# Altium integrated library Xilinx Virtex.IntLib: 240 symbols (part 23 of 36)
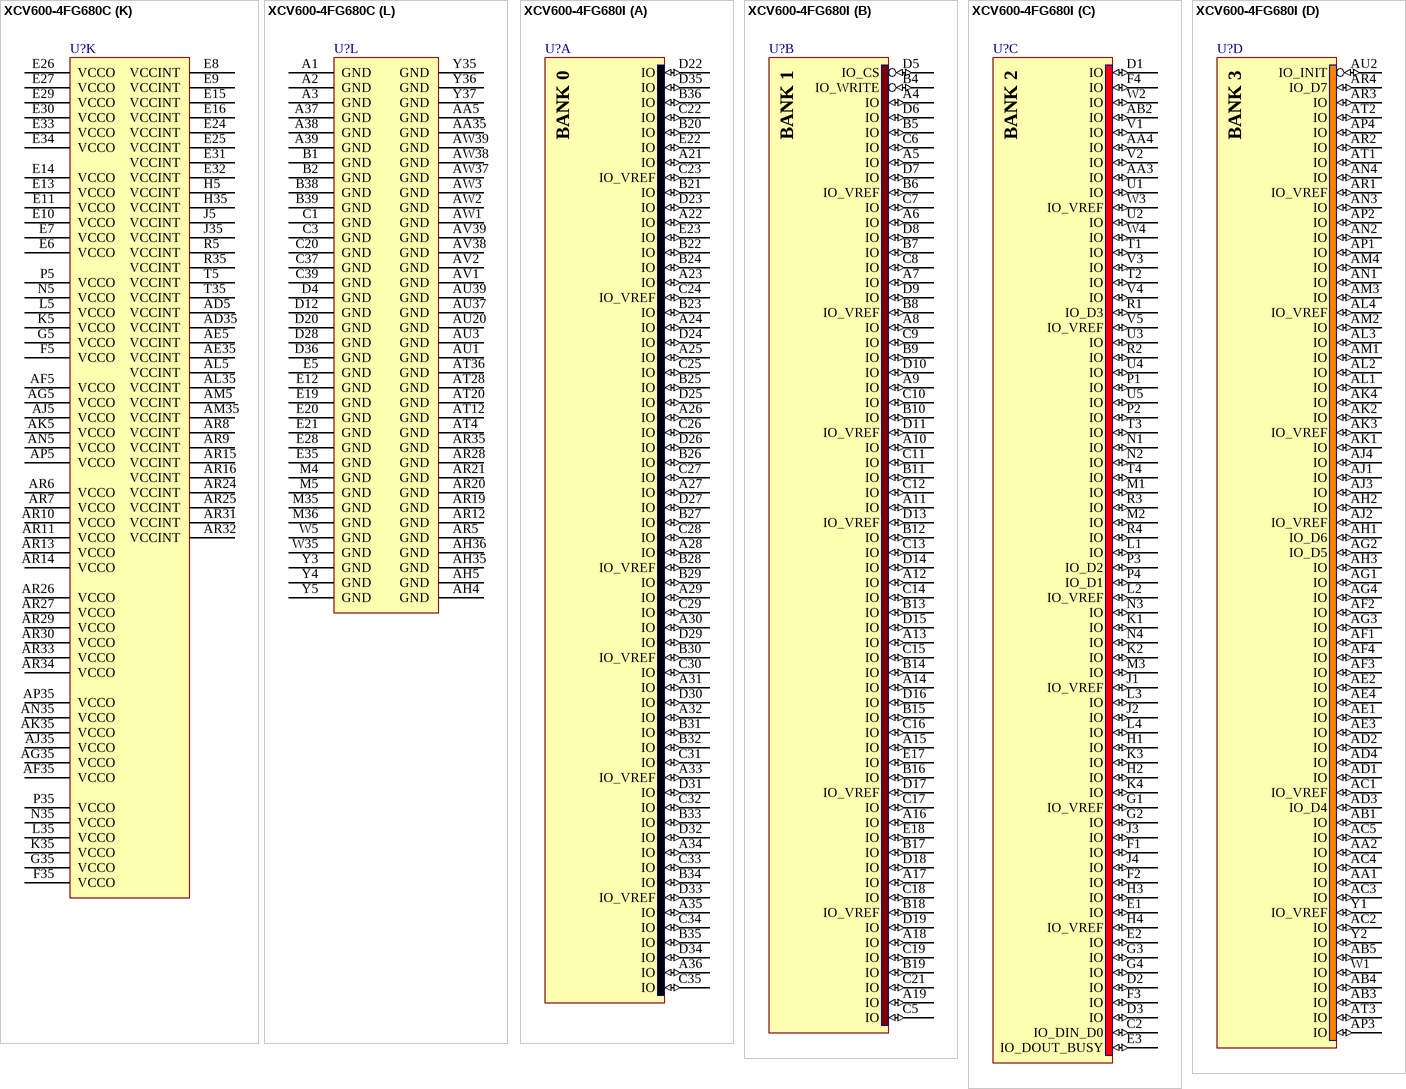
[diagram p243: symbols XCV600-4FG680C to XCV600-4FG680I]

## XCV600-4FG680C
designator U?
Virtex 2.5V FPGA, 512 User I/Os, 680-Ball FBGA, Speed Grade 4, Commercial Grade; Note: Solder pads are defined by the copper i.e. non-soldermask defined (NSMD); Published: 19-Sep-2001; LatestRevisionDate: 13-Apr-2006; LatestRevisionNote: IPC-7351 Footprint Added.; DatasheetVersion: Dec-2002; PackageVersion: ver1.2.1, Apr-2005; PackageReference: FG680; Publisher: Altium Limited; PackageDescription: 680-Ball Fine Pitch Ball Grid Array (FG680); Supplier 1: Digi-Key; Supplier Part Number 1: XCV600-4FG680C-ND; Code_JEDEC: MO-192-AAU-1 (Depopulated); ComponentLink1Description: Virtex Datasheet; ComponentLink1URL: http://www.xilinx.com/support/documentation/data_sheets/ds003.pdf; ComponentLink2Description: FG680 Package Drawing; ComponentLink2URL: http://www.xilinx.com/support/documentation/package_specs/fg680.pdf; ComponentLink3Description: Virtex Documents; ComponentLink3URL: http://www.xilinx.com/support/documentation/virtex.htm; ComponentLink4Description: Xilinx.com Home; ComponentLink4URL: http://www.xilinx.com
footprint FG680 (BGA, 680-Leads, Body 40x40mm, Pitch 1mm)
signal-integrity model XCV600_FG680 (Virtex)
part A pins: A21 IO (io), A22 IO (io), A23 IO (io), A24 IO (io), A25 IO (io), A26 IO (io), A27 IO (io), A28 IO (io), A29 IO (io), A30 IO (io), A31 IO (io), A32 IO (io), A33 IO_VREF (io), A34 IO (io), A35 IO (io), A36 IO (io), B20 IO (io), B21 IO (io), B22 IO (io), B23 IO (io), B24 IO (io), B25 IO (io), B26 IO (io), B27 IO (io), B28 IO_VREF (io), B29 IO (io), B30 IO_VREF (io), B31 IO (io), B32 IO (io), B33 IO (io), B34 IO (io), B35 IO (io), B36 IO (io), C22 IO (io), C23 IO_VREF (io), C24 IO_VREF (io), C25 IO (io), C26 IO (io), C27 IO (io), C28 IO (io), C29 IO (io), C30 IO (io), C31 IO (io), C32 IO (io), C33 IO (io), C34 IO (io), C35 IO (io), D22 IO (io), D23 IO (io), D24 IO (io), D25 IO (io), D26 IO (io), D27 IO (io), D29 IO (io), D30 IO (io), D31 IO (io), D32 IO (io), D33 IO_VREF (io), D34 IO (io), D35 IO (io), E22 IO (io), E23 IO (io)
part B pins: A4 IO (io), A5 IO (io), A6 IO (io), A7 IO (io), A8 IO (io), A9 IO (io), A10 IO (io), A11 IO (io), A12 IO (io), A13 IO (io), A14 IO (io), A15 IO (io), A16 IO (io), A17 IO (io), A18 IO (io), A19 IO (io), B4 IO_WRITE (io), B5 IO (io), B6 IO_VREF (io), B7 IO (io), B8 IO_VREF (io), B9 IO (io), B10 IO (io), B11 IO (io), B12 IO (io), B13 IO (io), B14 IO (io), B15 IO (io), B16 IO (io), B17 IO (io), B18 IO_VREF (io), B19 IO (io), C5 IO (io), C6 IO (io), C7 IO (io), C8 IO (io), C9 IO (io), C10 IO (io), C11 IO (io), C12 IO (io), C13 IO (io), C14 IO (io), C15 IO (io), C16 IO (io), C17 IO (io), C18 IO (io), C19 IO (io), C21 IO (io), D5 IO_CS (io), D6 IO (io), D7 IO (io), D8 IO (io), D9 IO (io), D10 IO (io), D11 IO_VREF (io), D13 IO_VREF (io), D14 IO (io), D15 IO (io), D16 IO (io), D17 IO_VREF (io), D18 IO (io), D19 IO (io), E17 IO (io), E18 IO (io)
part C pins: AA3 IO (io), AA4 IO (io), AB2 IO (io), C2 IO_DIN_D0 (io), D1 IO (io), D2 IO (io), D3 IO (io), E1 IO (io), E2 IO (io), E3 IO_DOUT_BUSY (io), F1 IO (io), F2 IO (io), F3 IO (io), F4 IO (io), G1 IO_VREF (io), G2 IO (io), G3 IO (io), G4 IO (io), H1 IO (io), H2 IO (io), H3 IO (io), H4 IO_VREF (io), J1 IO_VREF (io), J2 IO (io), J3 IO (io), J4 IO (io), K1 IO (io), K2 IO (io), K3 IO (io), K4 IO (io), L1 IO (io), L2 IO_VREF (io), L3 IO (io), L4 IO (io), M1 IO (io), M2 IO (io), M3 IO (io), N1 IO (io), N2 IO (io), N3 IO (io), N4 IO (io), P1 IO (io), P2 IO (io), P3 IO_D2 (io), P4 IO_D1 (io), R1 IO_D3 (io), R2 IO (io), R3 IO (io), R4 IO (io), T1 IO (io), T2 IO (io), T3 IO (io), T4 IO (io), U1 IO (io), U2 IO (io), U3 IO (io), U4 IO (io), U5 IO (io), V1 IO (io), V2 IO (io), V3 IO (io), V4 IO (io), V5 IO_VREF (io), W2 IO (io), W3 IO_VREF (io), W4 IO (io)
part D pins: AA1 IO (io), AA2 IO (io), AB1 IO (io), AB3 IO (io), AB4 IO (io), AB5 IO (io), AC1 IO_VREF (io), AC2 IO (io), AC3 IO (io), AC4 IO (io), AC5 IO (io), AD1 IO (io), AD2 IO (io), AD3 IO_D4 (io), AD4 IO (io), AE1 IO (io), AE2 IO (io), AE3 IO (io), AE4 IO (io), AF1 IO (io), AF2 IO (io), AF3 IO (io), AF4 IO (io), AG1 IO (io), AG2 IO_D5 (io), AG3 IO (io), AG4 IO (io), AH1 IO_D6 (io), AH2 IO (io), AH3 IO (io), AJ1 IO (io), AJ2 IO_VREF (io), AJ3 IO (io), AJ4 IO (io), AK1 IO (io), AK2 IO (io), AK3 IO_VREF (io), AK4 IO (io), AL1 IO (io), AL2 IO (io), AL3 IO (io), AL4 IO_VREF (io), AM1 IO (io), AM2 IO (io), AM3 IO (io), AM4 IO (io), AN1 IO (io), AN2 IO (io), AN3 IO (io), AN4 IO (io), AP1 IO (io), AP2 IO (io), AP3 IO (io), AP4 IO (io), AR1 IO_VREF (io), AR2 IO (io), AR3 IO (io), AR4 IO_D7 (io), AT1 IO (io), AT2 IO (io), AT3 IO (io), AU2 IO_INIT (io), W1 IO (io), Y1 IO_VREF (io), Y2 IO (io)
part E pins: AR17 IO (io), AR18 IO (io), AT6 IO (io), AT7 IO (io), AT8 IO (io), AT9 IO (io), AT10 IO (io), AT11 IO (io), AT13 IO (io), AT14 IO (io), AT15 IO (io), AT16 IO (io), AT17 IO (io), AT18 IO (io), AT19 IO_VREF (io), AT21 IO (io), AU4 IO (io), AU6 IO (io), AU7 IO_VREF (io), AU8 IO (io), AU9 IO (io), AU10 IO (io), AU11 IO (io), AU12 IO (io), AU13 IO (io), AU14 IO (io), AU15 IO (io), AU16 IO (io), AU17 IO_VREF (io), AU18 IO (io), AU19 IO (io), AU21 IO (io), AV3 IO (io), AV4 IO (io), AV5 IO (io), AV6 IO (io), AV7 IO (io), AV8 IO_VREF (io), AV9 IO (io), AV10 IO_VREF (io), AV11 IO (io), AV12 IO (io), AV13 IO (io), AV14 IO (io), AV15 IO (io), AV16 IO (io), AV17 IO (io), AV18 IO (io), AV19 IO (io), AW4 IO (io), AW5 IO (io), AW6 IO (io), AW7 IO (io), AW8 IO (io), AW9 IO (io), AW10 IO (io), AW11 IO_VREF (io), AW12 IO (io), AW13 IO (io), AW14 IO (io), AW15 IO (io), AW16 IO (io), AW17 IO (io), AW18 IO (io)
part F pins: AR22 IO (io), AR23 IO (io), AT22 IO (io), AT23 IO (io), AT24 IO (io), AT25 IO (io), AT26 IO (io), AT27 IO_VREF (io), AT29 IO (io), AT30 IO (io), AT31 IO (io), AT32 IO (io), AT33 IO (io), AT34 IO (io), AU23 IO (io), AU24 IO (io), AU25 IO (io), AU26 IO (io), AU27 IO (io), AU28 IO (io), AU29 IO_VREF (io), AU30 IO (io), AU31 IO_VREF (io), AU32 IO (io), AU33 IO (io), AU34 IO (io), AU36 IO (io), AV20 IO (io), AV21 IO (io), AV22 IO (io), AV23 IO (io), AV24 IO (io), AV25 IO (io), AV26 IO (io), AV27 IO (io), AV28 IO (io), AV29 IO (io), AV30 IO (io), AV31 IO (io), AV32 IO (io), AV33 IO (io), AV34 IO (io), AV35 IO_VREF (io), AV36 IO (io), AW20 IO (io), AW21 IO_VREF (io), AW22 IO (io), AW23 IO_VREF (io), AW24 IO (io), AW25 IO (io), AW26 IO (io), AW27 IO (io), AW28 IO (io), AW29 IO (io), AW30 IO (io), AW31 IO (io), AW32 IO (io), AW33 IO (io), AW34 IO (io), AW35 IO (io), AW36 IO (io)
part G pins: AA36 IO (io), AA38 IO (io), AA39 IO (io), AB35 IO_VREF (io), AB36 IO (io), AB37 IO (io), AB38 IO (io), AB39 IO (io), AC35 IO (io), AC36 IO (io), AC37 IO (io), AC38 IO (io), AC39 IO (io), AD36 IO (io), AD37 IO_VREF (io), AD38 IO (io), AD39 IO (io), AE36 IO (io), AE37 IO (io), AE38 IO (io), AE39 IO (io), AF36 IO (io), AF37 IO (io), AF38 IO (io), AF39 IO (io), AG36 IO (io), AG37 IO (io), AG38 IO (io), AG39 IO (io), AH37 IO (io), AH38 IO (io), AH39 IO_VREF (io), AJ36 IO (io), AJ37 IO (io), AJ38 IO (io), AJ39 IO (io), AK36 IO (io), AK37 IO (io), AK38 IO (io), AK39 IO_VREF (io), AL36 IO (io), AL37 IO (io), AL38 IO (io), AL39 IO (io), AM36 IO (io), AM37 IO (io), AM38 IO (io), AM39 IO_VREF (io), AN36 IO_VREF (io), AN37 IO (io), AN38 IO (io), AN39 IO (io), AP36 IO (io), AP37 IO (io), AP38 IO (io), AP39 IO (io), AR36 IO (io), AR37 IO (io), AR38 IO (io), AR39 IO (io), AT38 IO (io), AT39 IO (io), W39 IO (io), Y38 IO (io), Y39 IO (io)
part H pins: AA37 IO (io), B37 IO (io), C38 IO (io), D37 IO (io), D38 IO (io), D39 IO (io), E37 IO (io), E38 IO_VREF (io), E39 IO (io), F36 IO (io), F37 IO (io), F38 IO (io), F39 IO (io), G36 IO (io), G37 IO (io), G38 IO_VREF (io), G39 IO (io), H36 IO (io), H37 IO (io), H38 IO (io), H39 IO (io), J36 IO (io), J37 IO (io), J38 IO (io), J39 IO (io), K36 IO (io), K37 IO (io), K38 IO (io), K39 IO (io), L36 IO_VREF (io), L37 IO (io), L38 IO (io), L39 IO (io), M37 IO (io), M38 IO (io), M39 IO (io), N36 IO_VREF (io), N37 IO (io), N38 IO (io), N39 IO (io), P36 IO (io), P37 IO (io), P38 IO (io), P39 IO (io), R36 IO (io), R37 IO (io), R38 IO (io), R39 IO (io), T36 IO (io), T37 IO (io), T38 IO (io), T39 IO (io), U35 IO (io), U36 IO_VREF (io), U37 IO (io), U38 IO_VREF (io), U39 IO (io), V35 IO (io), V36 IO (io), V37 IO (io), V38 IO (io), V39 IO (io), W36 IO (io), W37 IO (io), W38 IO (io)
part I pins: A20 GCK3 (in), AU22 GCK1 (in), AW19 GCK0 (in), D21 GCK2 (in)
part J pins: AT5 PROGRAM (in), AT35 M2 (in), AT37 M0 (in), AU5 DONE (io), AU35 DXP, AU38 M1 (in), AV37 DXN, B3 TDI (in), C4 TDO (out), C36 TCK (in), E4 CCLK (io), E36 TMS (in)
part K pins: AD5 VCCINT (power), AD35 VCCINT (power), AE5 VCCINT (power), AE35 VCCINT (power), AF5 VCCO (power), AF35 VCCO (power), AG5 VCCO (power), AG35 VCCO (power), AJ5 VCCO (power), AJ35 VCCO (power), AK5 VCCO (power), AK35 VCCO (power), AL5 VCCINT (power), AL35 VCCINT (power), AM5 VCCINT (power), AM35 VCCINT (power), AN5 VCCO (power), AN35 VCCO (power), AP5 VCCO (power), AP35 VCCO (power), AR6 VCCO (power), AR7 VCCO (power), AR8 VCCINT (power), AR9 VCCINT (power), AR10 VCCO (power), AR11 VCCO (power), AR13 VCCO (power), AR14 VCCO (power), AR15 VCCINT (power), AR16 VCCINT (power), AR24 VCCINT (power), AR25 VCCINT (power), AR26 VCCO (power), AR27 VCCO (power), AR29 VCCO (power), AR30 VCCO (power), AR31 VCCINT (power), AR32 VCCINT (power), AR33 VCCO (power), AR34 VCCO (power), E6 VCCO (power), E7 VCCO (power), E8 VCCINT (power), E9 VCCINT (power), E10 VCCO (power), E11 VCCO (power), E13 VCCO (power), E14 VCCO (power), E15 VCCINT (power), E16 VCCINT (power), E24 VCCINT (power), E25 VCCINT (power), E26 VCCO (power), E27 VCCO (power), E29 VCCO (power), E30 VCCO (power), E31 VCCINT (power), E32 VCCINT (power), E33 VCCO (power), E34 VCCO (power), F5 VCCO (power), F35 VCCO (power), G5 VCCO (power), G35 VCCO (power), H5 VCCINT (power), H35 VCCINT (power), J5 VCCINT (power), J35 VCCINT (power), K5 VCCO (power), K35 VCCO (power), L5 VCCO (power), L35 VCCO (power), N5 VCCO (power), N35 VCCO (power), P5 VCCO (power), P35 VCCO (power), R5 VCCINT (power), R35 VCCINT (power), T5 VCCINT (power), T35 VCCINT (power)
part L pins: A1 GND (power), A2 GND (power), A3 GND (power), A37 GND (power), A38 GND (power), A39 GND (power), AA5 GND (power), AA35 GND (power), AH4 GND (power), AH5 GND (power), AH35 GND (power), AH36 GND (power), AR5 GND (power), AR12 GND (power), AR19 GND (power), AR20 GND (power), AR21 GND (power), AR28 GND (power), AR35 GND (power), AT4 GND (power), AT12 GND (power), AT20 GND (power), AT28 GND (power), AT36 GND (power), AU1 GND (power), AU3 GND (power), AU20 GND (power), AU37 GND (power), AU39 GND (power), AV1 GND (power), AV2 GND (power), AV38 GND (power), AV39 GND (power), AW1 GND (power), AW2 GND (power), AW3 GND (power), AW37 GND (power), AW38 GND (power), AW39 GND (power), B1 GND (power), B2 GND (power), B38 GND (power), B39 GND (power), C1 GND (power), C3 GND (power), C20 GND (power), C37 GND (power), C39 GND (power), D4 GND (power), D12 GND (power), D20 GND (power), D28 GND (power), D36 GND (power), E5 GND (power), E12 GND (power), E19 GND (power), E20 GND (power), E21 GND (power), E28 GND (power), E35 GND (power), M4 GND (power), M5 GND (power), M35 GND (power), M36 GND (power), W5 GND (power), W35 GND (power), Y3 GND (power), Y4 GND (power), Y5 GND (power), Y35 GND (power), Y36 GND (power), Y37 GND (power)
part A text: BANK 0
part B text: BANK 1
part C text: BANK 2
part D text: BANK 3
part E text: BANK 4
part F text: BANK 5
part G text: BANK 6
part H text: BANK 7

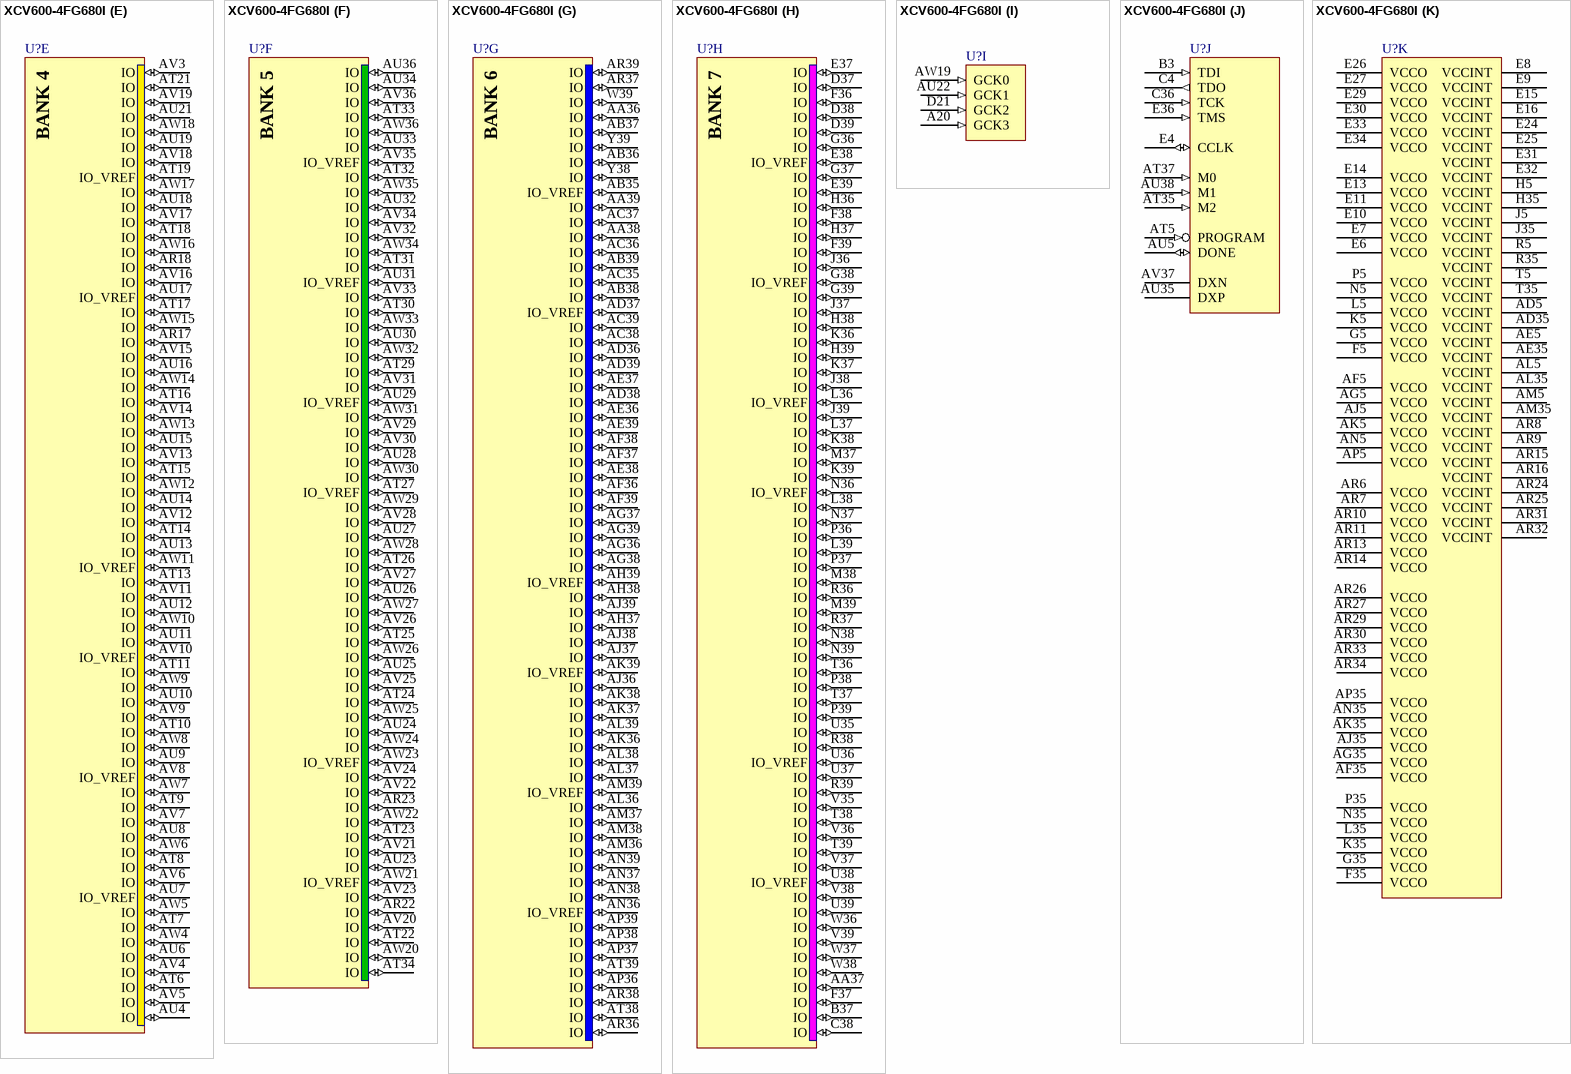
[diagram p133: symbol XCV600-4FG680I]

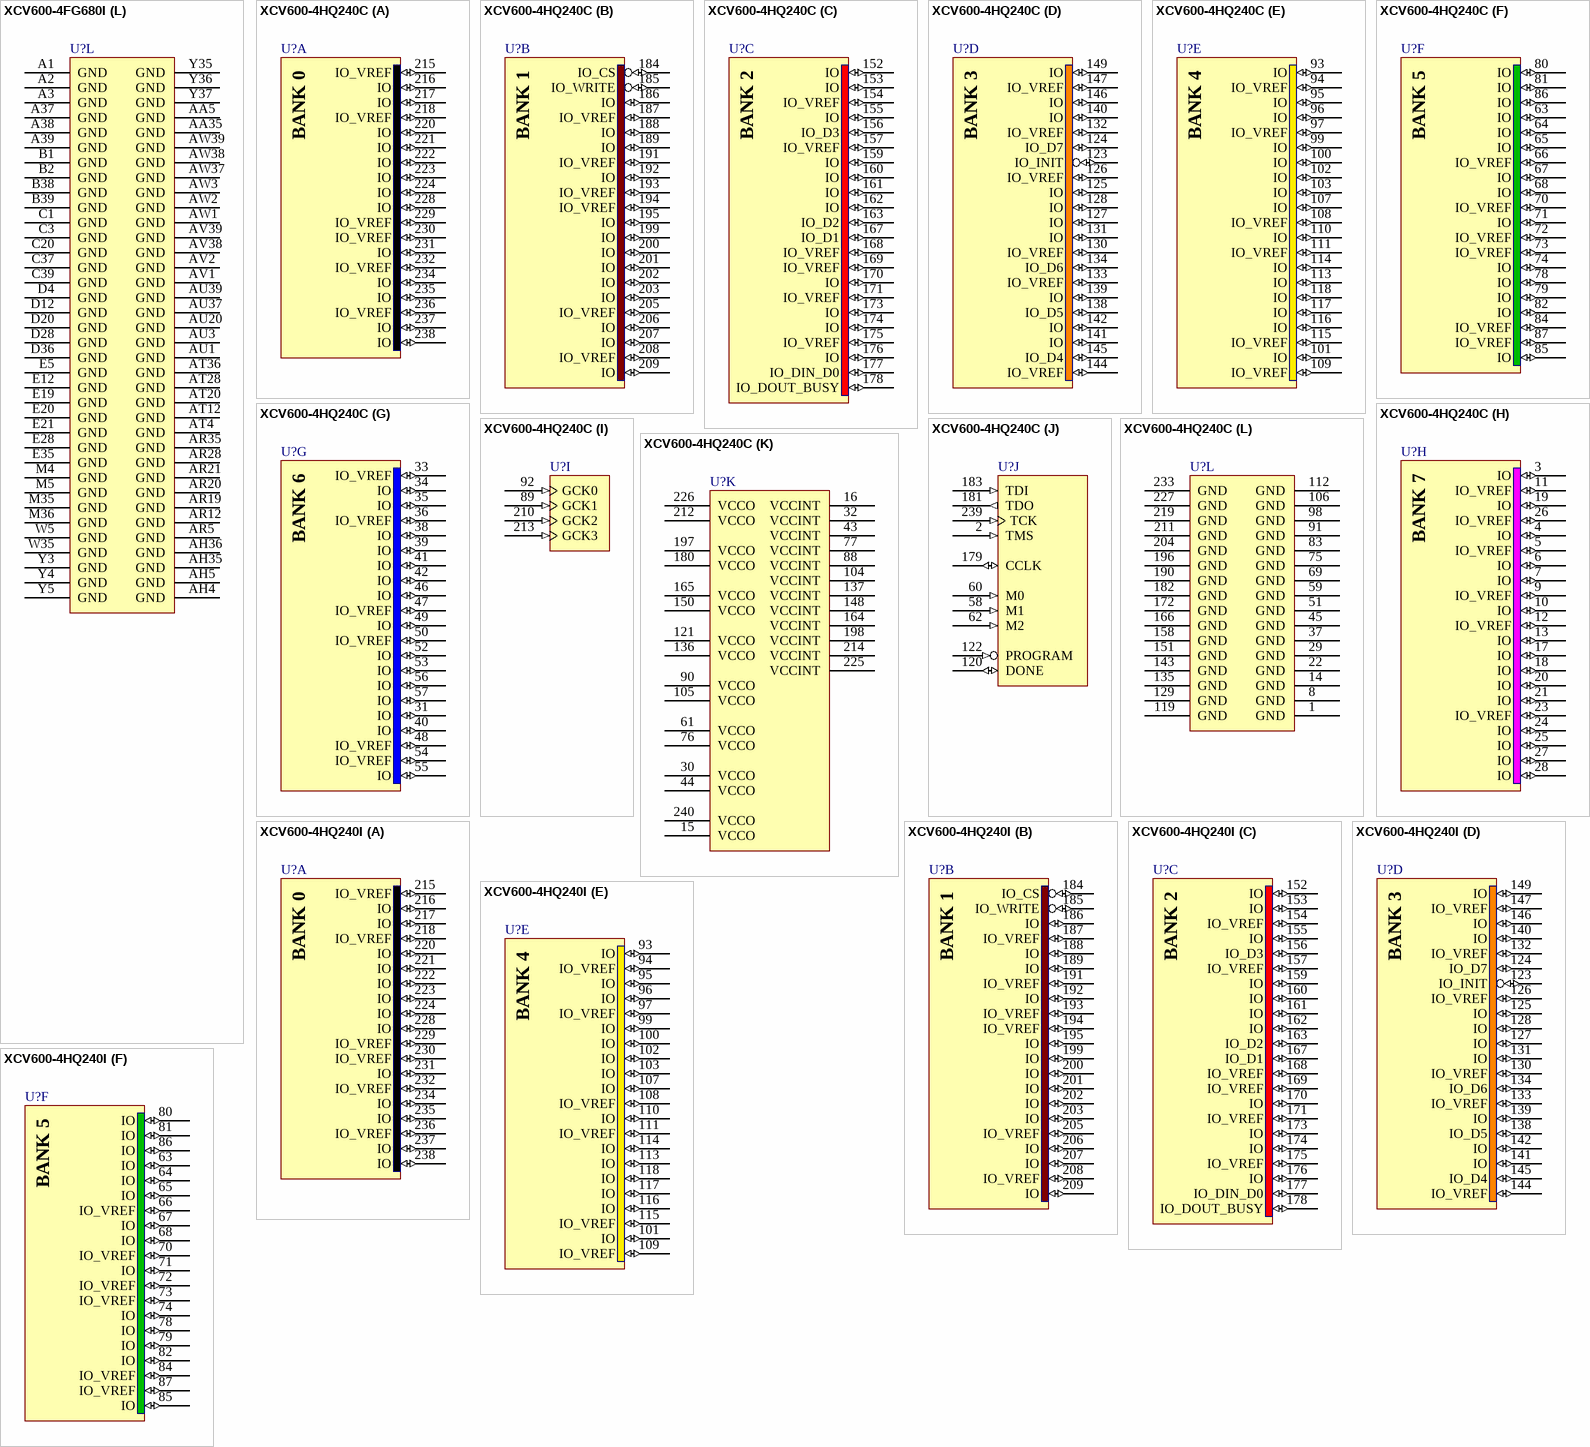
[diagram p134: symbols XCV600-4FG680I to XCV600-4HQ240I]

## XCV600-4FG680I
designator U?
Virtex 2.5V FPGA, 512 User I/Os, 680-Ball FBGA, Speed Grade 4, Industrial Grade; Note: Solder pads are defined by the copper i.e. non-soldermask defined (NSMD); Published: 19-Sep-2001; LatestRevisionDate: 13-Apr-2006; LatestRevisionNote: IPC-7351 Footprint Added.; DatasheetVersion: Dec-2002; PackageVersion: ver1.2.1, Apr-2005; PackageReference: FG680; Publisher: Altium Limited; PackageDescription: 680-Ball Fine Pitch Ball Grid Array (FG680); Supplier 1: Digi-Key; Supplier Part Number 1: XCV600-4FG680I-ND; Code_JEDEC: MO-192-AAU-1 (Depopulated); ComponentLink1Description: Virtex Datasheet; ComponentLink1URL: http://www.xilinx.com/support/documentation/data_sheets/ds003.pdf; ComponentLink2Description: FG680 Package Drawing; ComponentLink2URL: http://www.xilinx.com/support/documentation/package_specs/fg680.pdf; ComponentLink3Description: Virtex Documents; ComponentLink3URL: http://www.xilinx.com/support/documentation/virtex.htm; ComponentLink4Description: Xilinx.com Home; ComponentLink4URL: http://www.xilinx.com
footprint FG680 (BGA, 680-Leads, Body 40x40mm, Pitch 1mm)
signal-integrity model XCV600_FG680 (Virtex)
part A pins: A21 IO (io), A22 IO (io), A23 IO (io), A24 IO (io), A25 IO (io), A26 IO (io), A27 IO (io), A28 IO (io), A29 IO (io), A30 IO (io), A31 IO (io), A32 IO (io), A33 IO_VREF (io), A34 IO (io), A35 IO (io), A36 IO (io), B20 IO (io), B21 IO (io), B22 IO (io), B23 IO (io), B24 IO (io), B25 IO (io), B26 IO (io), B27 IO (io), B28 IO_VREF (io), B29 IO (io), B30 IO_VREF (io), B31 IO (io), B32 IO (io), B33 IO (io), B34 IO (io), B35 IO (io), B36 IO (io), C22 IO (io), C23 IO_VREF (io), C24 IO_VREF (io), C25 IO (io), C26 IO (io), C27 IO (io), C28 IO (io), C29 IO (io), C30 IO (io), C31 IO (io), C32 IO (io), C33 IO (io), C34 IO (io), C35 IO (io), D22 IO (io), D23 IO (io), D24 IO (io), D25 IO (io), D26 IO (io), D27 IO (io), D29 IO (io), D30 IO (io), D31 IO (io), D32 IO (io), D33 IO_VREF (io), D34 IO (io), D35 IO (io), E22 IO (io), E23 IO (io)
part B pins: A4 IO (io), A5 IO (io), A6 IO (io), A7 IO (io), A8 IO (io), A9 IO (io), A10 IO (io), A11 IO (io), A12 IO (io), A13 IO (io), A14 IO (io), A15 IO (io), A16 IO (io), A17 IO (io), A18 IO (io), A19 IO (io), B4 IO_WRITE (io), B5 IO (io), B6 IO_VREF (io), B7 IO (io), B8 IO_VREF (io), B9 IO (io), B10 IO (io), B11 IO (io), B12 IO (io), B13 IO (io), B14 IO (io), B15 IO (io), B16 IO (io), B17 IO (io), B18 IO_VREF (io), B19 IO (io), C5 IO (io), C6 IO (io), C7 IO (io), C8 IO (io), C9 IO (io), C10 IO (io), C11 IO (io), C12 IO (io), C13 IO (io), C14 IO (io), C15 IO (io), C16 IO (io), C17 IO (io), C18 IO (io), C19 IO (io), C21 IO (io), D5 IO_CS (io), D6 IO (io), D7 IO (io), D8 IO (io), D9 IO (io), D10 IO (io), D11 IO_VREF (io), D13 IO_VREF (io), D14 IO (io), D15 IO (io), D16 IO (io), D17 IO_VREF (io), D18 IO (io), D19 IO (io), E17 IO (io), E18 IO (io)
part C pins: AA3 IO (io), AA4 IO (io), AB2 IO (io), C2 IO_DIN_D0 (io), D1 IO (io), D2 IO (io), D3 IO (io), E1 IO (io), E2 IO (io), E3 IO_DOUT_BUSY (io), F1 IO (io), F2 IO (io), F3 IO (io), F4 IO (io), G1 IO_VREF (io), G2 IO (io), G3 IO (io), G4 IO (io), H1 IO (io), H2 IO (io), H3 IO (io), H4 IO_VREF (io), J1 IO_VREF (io), J2 IO (io), J3 IO (io), J4 IO (io), K1 IO (io), K2 IO (io), K3 IO (io), K4 IO (io), L1 IO (io), L2 IO_VREF (io), L3 IO (io), L4 IO (io), M1 IO (io), M2 IO (io), M3 IO (io), N1 IO (io), N2 IO (io), N3 IO (io), N4 IO (io), P1 IO (io), P2 IO (io), P3 IO_D2 (io), P4 IO_D1 (io), R1 IO_D3 (io), R2 IO (io), R3 IO (io), R4 IO (io), T1 IO (io), T2 IO (io), T3 IO (io), T4 IO (io), U1 IO (io), U2 IO (io), U3 IO (io), U4 IO (io), U5 IO (io), V1 IO (io), V2 IO (io), V3 IO (io), V4 IO (io), V5 IO_VREF (io), W2 IO (io), W3 IO_VREF (io), W4 IO (io)
part D pins: AA1 IO (io), AA2 IO (io), AB1 IO (io), AB3 IO (io), AB4 IO (io), AB5 IO (io), AC1 IO_VREF (io), AC2 IO (io), AC3 IO (io), AC4 IO (io), AC5 IO (io), AD1 IO (io), AD2 IO (io), AD3 IO_D4 (io), AD4 IO (io), AE1 IO (io), AE2 IO (io), AE3 IO (io), AE4 IO (io), AF1 IO (io), AF2 IO (io), AF3 IO (io), AF4 IO (io), AG1 IO (io), AG2 IO_D5 (io), AG3 IO (io), AG4 IO (io), AH1 IO_D6 (io), AH2 IO (io), AH3 IO (io), AJ1 IO (io), AJ2 IO_VREF (io), AJ3 IO (io), AJ4 IO (io), AK1 IO (io), AK2 IO (io), AK3 IO_VREF (io), AK4 IO (io), AL1 IO (io), AL2 IO (io), AL3 IO (io), AL4 IO_VREF (io), AM1 IO (io), AM2 IO (io), AM3 IO (io), AM4 IO (io), AN1 IO (io), AN2 IO (io), AN3 IO (io), AN4 IO (io), AP1 IO (io), AP2 IO (io), AP3 IO (io), AP4 IO (io), AR1 IO_VREF (io), AR2 IO (io), AR3 IO (io), AR4 IO_D7 (io), AT1 IO (io), AT2 IO (io), AT3 IO (io), AU2 IO_INIT (io), W1 IO (io), Y1 IO_VREF (io), Y2 IO (io)
part E pins: AR17 IO (io), AR18 IO (io), AT6 IO (io), AT7 IO (io), AT8 IO (io), AT9 IO (io), AT10 IO (io), AT11 IO (io), AT13 IO (io), AT14 IO (io), AT15 IO (io), AT16 IO (io), AT17 IO (io), AT18 IO (io), AT19 IO_VREF (io), AT21 IO (io), AU4 IO (io), AU6 IO (io), AU7 IO_VREF (io), AU8 IO (io), AU9 IO (io), AU10 IO (io), AU11 IO (io), AU12 IO (io), AU13 IO (io), AU14 IO (io), AU15 IO (io), AU16 IO (io), AU17 IO_VREF (io), AU18 IO (io), AU19 IO (io), AU21 IO (io), AV3 IO (io), AV4 IO (io), AV5 IO (io), AV6 IO (io), AV7 IO (io), AV8 IO_VREF (io), AV9 IO (io), AV10 IO_VREF (io), AV11 IO (io), AV12 IO (io), AV13 IO (io), AV14 IO (io), AV15 IO (io), AV16 IO (io), AV17 IO (io), AV18 IO (io), AV19 IO (io), AW4 IO (io), AW5 IO (io), AW6 IO (io), AW7 IO (io), AW8 IO (io), AW9 IO (io), AW10 IO (io), AW11 IO_VREF (io), AW12 IO (io), AW13 IO (io), AW14 IO (io), AW15 IO (io), AW16 IO (io), AW17 IO (io), AW18 IO (io)
part F pins: AR22 IO (io), AR23 IO (io), AT22 IO (io), AT23 IO (io), AT24 IO (io), AT25 IO (io), AT26 IO (io), AT27 IO_VREF (io), AT29 IO (io), AT30 IO (io), AT31 IO (io), AT32 IO (io), AT33 IO (io), AT34 IO (io), AU23 IO (io), AU24 IO (io), AU25 IO (io), AU26 IO (io), AU27 IO (io), AU28 IO (io), AU29 IO_VREF (io), AU30 IO (io), AU31 IO_VREF (io), AU32 IO (io), AU33 IO (io), AU34 IO (io), AU36 IO (io), AV20 IO (io), AV21 IO (io), AV22 IO (io), AV23 IO (io), AV24 IO (io), AV25 IO (io), AV26 IO (io), AV27 IO (io), AV28 IO (io), AV29 IO (io), AV30 IO (io), AV31 IO (io), AV32 IO (io), AV33 IO (io), AV34 IO (io), AV35 IO_VREF (io), AV36 IO (io), AW20 IO (io), AW21 IO_VREF (io), AW22 IO (io), AW23 IO_VREF (io), AW24 IO (io), AW25 IO (io), AW26 IO (io), AW27 IO (io), AW28 IO (io), AW29 IO (io), AW30 IO (io), AW31 IO (io), AW32 IO (io), AW33 IO (io), AW34 IO (io), AW35 IO (io), AW36 IO (io)
part G pins: AA36 IO (io), AA38 IO (io), AA39 IO (io), AB35 IO_VREF (io), AB36 IO (io), AB37 IO (io), AB38 IO (io), AB39 IO (io), AC35 IO (io), AC36 IO (io), AC37 IO (io), AC38 IO (io), AC39 IO (io), AD36 IO (io), AD37 IO_VREF (io), AD38 IO (io), AD39 IO (io), AE36 IO (io), AE37 IO (io), AE38 IO (io), AE39 IO (io), AF36 IO (io), AF37 IO (io), AF38 IO (io), AF39 IO (io), AG36 IO (io), AG37 IO (io), AG38 IO (io), AG39 IO (io), AH37 IO (io), AH38 IO (io), AH39 IO_VREF (io), AJ36 IO (io), AJ37 IO (io), AJ38 IO (io), AJ39 IO (io), AK36 IO (io), AK37 IO (io), AK38 IO (io), AK39 IO_VREF (io), AL36 IO (io), AL37 IO (io), AL38 IO (io), AL39 IO (io), AM36 IO (io), AM37 IO (io), AM38 IO (io), AM39 IO_VREF (io), AN36 IO_VREF (io), AN37 IO (io), AN38 IO (io), AN39 IO (io), AP36 IO (io), AP37 IO (io), AP38 IO (io), AP39 IO (io), AR36 IO (io), AR37 IO (io), AR38 IO (io), AR39 IO (io), AT38 IO (io), AT39 IO (io), W39 IO (io), Y38 IO (io), Y39 IO (io)
part H pins: AA37 IO (io), B37 IO (io), C38 IO (io), D37 IO (io), D38 IO (io), D39 IO (io), E37 IO (io), E38 IO_VREF (io), E39 IO (io), F36 IO (io), F37 IO (io), F38 IO (io), F39 IO (io), G36 IO (io), G37 IO (io), G38 IO_VREF (io), G39 IO (io), H36 IO (io), H37 IO (io), H38 IO (io), H39 IO (io), J36 IO (io), J37 IO (io), J38 IO (io), J39 IO (io), K36 IO (io), K37 IO (io), K38 IO (io), K39 IO (io), L36 IO_VREF (io), L37 IO (io), L38 IO (io), L39 IO (io), M37 IO (io), M38 IO (io), M39 IO (io), N36 IO_VREF (io), N37 IO (io), N38 IO (io), N39 IO (io), P36 IO (io), P37 IO (io), P38 IO (io), P39 IO (io), R36 IO (io), R37 IO (io), R38 IO (io), R39 IO (io), T36 IO (io), T37 IO (io), T38 IO (io), T39 IO (io), U35 IO (io), U36 IO_VREF (io), U37 IO (io), U38 IO_VREF (io), U39 IO (io), V35 IO (io), V36 IO (io), V37 IO (io), V38 IO (io), V39 IO (io), W36 IO (io), W37 IO (io), W38 IO (io)
part I pins: A20 GCK3 (in), AU22 GCK1 (in), AW19 GCK0 (in), D21 GCK2 (in)
part J pins: AT5 PROGRAM (in), AT35 M2 (in), AT37 M0 (in), AU5 DONE (io), AU35 DXP, AU38 M1 (in), AV37 DXN, B3 TDI (in), C4 TDO (out), C36 TCK (in), E4 CCLK (io), E36 TMS (in)
part K pins: AD5 VCCINT (power), AD35 VCCINT (power), AE5 VCCINT (power), AE35 VCCINT (power), AF5 VCCO (power), AF35 VCCO (power), AG5 VCCO (power), AG35 VCCO (power), AJ5 VCCO (power), AJ35 VCCO (power), AK5 VCCO (power), AK35 VCCO (power), AL5 VCCINT (power), AL35 VCCINT (power), AM5 VCCINT (power), AM35 VCCINT (power), AN5 VCCO (power), AN35 VCCO (power), AP5 VCCO (power), AP35 VCCO (power), AR6 VCCO (power), AR7 VCCO (power), AR8 VCCINT (power), AR9 VCCINT (power), AR10 VCCO (power), AR11 VCCO (power), AR13 VCCO (power), AR14 VCCO (power), AR15 VCCINT (power), AR16 VCCINT (power), AR24 VCCINT (power), AR25 VCCINT (power), AR26 VCCO (power), AR27 VCCO (power), AR29 VCCO (power), AR30 VCCO (power), AR31 VCCINT (power), AR32 VCCINT (power), AR33 VCCO (power), AR34 VCCO (power), E6 VCCO (power), E7 VCCO (power), E8 VCCINT (power), E9 VCCINT (power), E10 VCCO (power), E11 VCCO (power), E13 VCCO (power), E14 VCCO (power), E15 VCCINT (power), E16 VCCINT (power), E24 VCCINT (power), E25 VCCINT (power), E26 VCCO (power), E27 VCCO (power), E29 VCCO (power), E30 VCCO (power), E31 VCCINT (power), E32 VCCINT (power), E33 VCCO (power), E34 VCCO (power), F5 VCCO (power), F35 VCCO (power), G5 VCCO (power), G35 VCCO (power), H5 VCCINT (power), H35 VCCINT (power), J5 VCCINT (power), J35 VCCINT (power), K5 VCCO (power), K35 VCCO (power), L5 VCCO (power), L35 VCCO (power), N5 VCCO (power), N35 VCCO (power), P5 VCCO (power), P35 VCCO (power), R5 VCCINT (power), R35 VCCINT (power), T5 VCCINT (power), T35 VCCINT (power)
part L pins: A1 GND (power), A2 GND (power), A3 GND (power), A37 GND (power), A38 GND (power), A39 GND (power), AA5 GND (power), AA35 GND (power), AH4 GND (power), AH5 GND (power), AH35 GND (power), AH36 GND (power), AR5 GND (power), AR12 GND (power), AR19 GND (power), AR20 GND (power), AR21 GND (power), AR28 GND (power), AR35 GND (power), AT4 GND (power), AT12 GND (power), AT20 GND (power), AT28 GND (power), AT36 GND (power), AU1 GND (power), AU3 GND (power), AU20 GND (power), AU37 GND (power), AU39 GND (power), AV1 GND (power), AV2 GND (power), AV38 GND (power), AV39 GND (power), AW1 GND (power), AW2 GND (power), AW3 GND (power), AW37 GND (power), AW38 GND (power), AW39 GND (power), B1 GND (power), B2 GND (power), B38 GND (power), B39 GND (power), C1 GND (power), C3 GND (power), C20 GND (power), C37 GND (power), C39 GND (power), D4 GND (power), D12 GND (power), D20 GND (power), D28 GND (power), D36 GND (power), E5 GND (power), E12 GND (power), E19 GND (power), E20 GND (power), E21 GND (power), E28 GND (power), E35 GND (power), M4 GND (power), M5 GND (power), M35 GND (power), M36 GND (power), W5 GND (power), W35 GND (power), Y3 GND (power), Y4 GND (power), Y5 GND (power), Y35 GND (power), Y36 GND (power), Y37 GND (power)
part A text: BANK 0
part B text: BANK 1
part C text: BANK 2
part D text: BANK 3
part E text: BANK 4
part F text: BANK 5
part G text: BANK 6
part H text: BANK 7

## XCV600-4HQ240C
designator U?
Virtex 2.5V FPGA, 166 User I/Os, 240-Pin HQFP, Speed Grade 4, Commercial Grade; Published: 19-Sep-2001; LatestRevisionDate: 13-Apr-2006; LatestRevisionNote: IPC-7351 Footprint Added.; DatasheetVersion: Dec-2002; PackageVersion: ver1.2, Jun-2004; PackageReference: HQ240; Publisher: Altium Limited; PackageDescription: 240-Pin Heat Sink Quad Flat Pack (HQ240); Supplier 1: Digi-Key; Supplier Part Number 1: XCV600-4HQ240C-ND; Code_JEDEC: MO-143-GA; ComponentLink1Description: Virtex Datasheet; ComponentLink1URL: http://www.xilinx.com/support/documentation/data_sheets/ds003.pdf; ComponentLink2Description: Discontinuation Notice; ComponentLink2URL: http://www.xilinx.com/support/documentation/customer_notices/xcn09001.pdf; ComponentLink3Description: HQ240 Package Drawing; ComponentLink3URL: http://www.xilinx.com/support/documentation/package_specs/hq240.pdf; ComponentLink4Description: Virtex Documents; ComponentLink4URL: http://www.xilinx.com/support/documentation/virtex.htm; ComponentLink5Description: Xilinx.com Home; ComponentLink5URL: http://www.xilinx.com
footprint HQ240_N (Shrink QFP, 240-Leads, Body 32x32mm, Pitch 0.5mm, IPC Medium Density)
footprint HQ240_L (Shrink QFP, 240-Leads, Body 32x32mm, Pitch 0.5mm, IPC High Density)
footprint HQ240_M (Shrink QFP, 240-Leads, Body 32x32mm, Pitch 0.5mm, IPC Low Density)
signal-integrity model XCV600_HQ240 (Virtex)
part A pins: 215 IO_VREF (io), 216 IO (io), 217 IO (io), 218 IO_VREF (io), 220 IO (io), 221 IO (io), 222 IO (io), 223 IO (io), 224 IO (io), 228 IO (io), 229 IO_VREF (io), 230 IO_VREF (io), 231 IO (io), 232 IO_VREF (io), 234 IO (io), 235 IO (io), 236 IO_VREF (io), 237 IO (io), 238 IO (io)
part B pins: 184 IO_CS (io), 185 IO_WRITE (io), 186 IO (io), 187 IO_VREF (io), 188 IO (io), 189 IO (io), 191 IO_VREF (io), 192 IO (io), 193 IO_VREF (io), 194 IO_VREF (io), 195 IO (io), 199 IO (io), 200 IO (io), 201 IO (io), 202 IO (io), 203 IO (io), 205 IO_VREF (io), 206 IO (io), 207 IO (io), 208 IO_VREF (io), 209 IO (io)
part C pins: 152 IO (io), 153 IO (io), 154 IO_VREF (io), 155 IO (io), 156 IO_D3 (io), 157 IO_VREF (io), 159 IO (io), 160 IO (io), 161 IO (io), 162 IO (io), 163 IO_D2 (io), 167 IO_D1 (io), 168 IO_VREF (io), 169 IO_VREF (io), 170 IO (io), 171 IO_VREF (io), 173 IO (io), 174 IO (io), 175 IO_VREF (io), 176 IO (io), 177 IO_DIN_D0 (io), 178 IO_DOUT_BUSY (io)
part D pins: 123 IO_INIT (io), 124 IO_D7 (io), 125 IO (io), 126 IO_VREF (io), 127 IO (io), 128 IO (io), 130 IO_VREF (io), 131 IO (io), 132 IO_VREF (io), 133 IO_VREF (io), 134 IO_D6 (io), 138 IO_D5 (io), 139 IO (io), 140 IO (io), 141 IO (io), 142 IO (io), 144 IO_VREF (io), 145 IO_D4 (io), 146 IO (io), 147 IO_VREF (io), 149 IO (io)
part E pins: 93 IO (io), 94 IO_VREF (io), 95 IO (io), 96 IO (io), 97 IO_VREF (io), 99 IO (io), 100 IO (io), 101 IO (io), 102 IO (io), 103 IO (io), 107 IO (io), 108 IO_VREF (io), 109 IO_VREF (io), 110 IO (io), 111 IO_VREF (io), 113 IO (io), 114 IO (io), 115 IO_VREF (io), 116 IO (io), 117 IO (io), 118 IO (io)
part F pins: 63 IO (io), 64 IO (io), 65 IO (io), 66 IO_VREF (io), 67 IO (io), 68 IO (io), 70 IO_VREF (io), 71 IO (io), 72 IO_VREF (io), 73 IO_VREF (io), 74 IO (io), 78 IO (io), 79 IO (io), 80 IO (io), 81 IO (io), 82 IO (io), 84 IO_VREF (io), 85 IO (io), 86 IO (io), 87 IO_VREF (io)
part G pins: 31 IO (io), 33 IO_VREF (io), 34 IO (io), 35 IO (io), 36 IO_VREF (io), 38 IO (io), 39 IO (io), 40 IO (io), 41 IO (io), 42 IO (io), 46 IO (io), 47 IO_VREF (io), 48 IO_VREF (io), 49 IO (io), 50 IO_VREF (io), 52 IO (io), 53 IO (io), 54 IO_VREF (io), 55 IO (io), 56 IO (io), 57 IO (io)
part H pins: 3 IO (io), 4 IO (io), 5 IO_VREF (io), 6 IO (io), 7 IO (io), 9 IO_VREF (io), 10 IO (io), 11 IO_VREF (io), 12 IO_VREF (io), 13 IO (io), 17 IO (io), 18 IO (io), 19 IO (io), 20 IO (io), 21 IO (io), 23 IO_VREF (io), 24 IO (io), 25 IO (io), 26 IO_VREF (io), 27 IO (io), 28 IO (io)
part I pins: 89 GCK1 (in), 92 GCK0 (in), 210 GCK2 (in), 213 GCK3 (in)
part J pins: 2 TMS (in), 58 M1 (in), 60 M0 (in), 62 M2 (in), 120 DONE (io), 122 PROGRAM (in), 179 CCLK (io), 181 TDO (out), 183 TDI (in), 239 TCK (in)
part K pins: 15 VCCO (power), 16 VCCINT (power), 30 VCCO (power), 32 VCCINT (power), 43 VCCINT (power), 44 VCCO (power), 61 VCCO (power), 76 VCCO (power), 77 VCCINT (power), 88 VCCINT (power), 90 VCCO (power), 104 VCCINT (power), 105 VCCO (power), 121 VCCO (power), 136 VCCO (power), 137 VCCINT (power), 148 VCCINT (power), 150 VCCO (power), 164 VCCINT (power), 165 VCCO (power), 180 VCCO (power), 197 VCCO (power), 198 VCCINT (power), 212 VCCO (power), 214 VCCINT (power), 225 VCCINT (power), 226 VCCO (power), 240 VCCO (power)
part L pins: 1 GND (power), 8 GND (power), 14 GND (power), 22 GND (power), 29 GND (power), 37 GND (power), 45 GND (power), 51 GND (power), 59 GND (power), 69 GND (power), 75 GND (power), 83 GND (power), 91 GND (power), 98 GND (power), 106 GND (power), 112 GND (power), 119 GND (power), 129 GND (power), 135 GND (power), 143 GND (power), 151 GND (power), 158 GND (power), 166 GND (power), 172 GND (power), 182 GND (power), 190 GND (power), 196 GND (power), 204 GND (power), 211 GND (power), 219 GND (power), 227 GND (power), 233 GND (power)
part A text: BANK 0
part B text: BANK 1
part C text: BANK 2
part D text: BANK 3
part E text: BANK 4
part F text: BANK 5
part G text: BANK 6
part H text: BANK 7

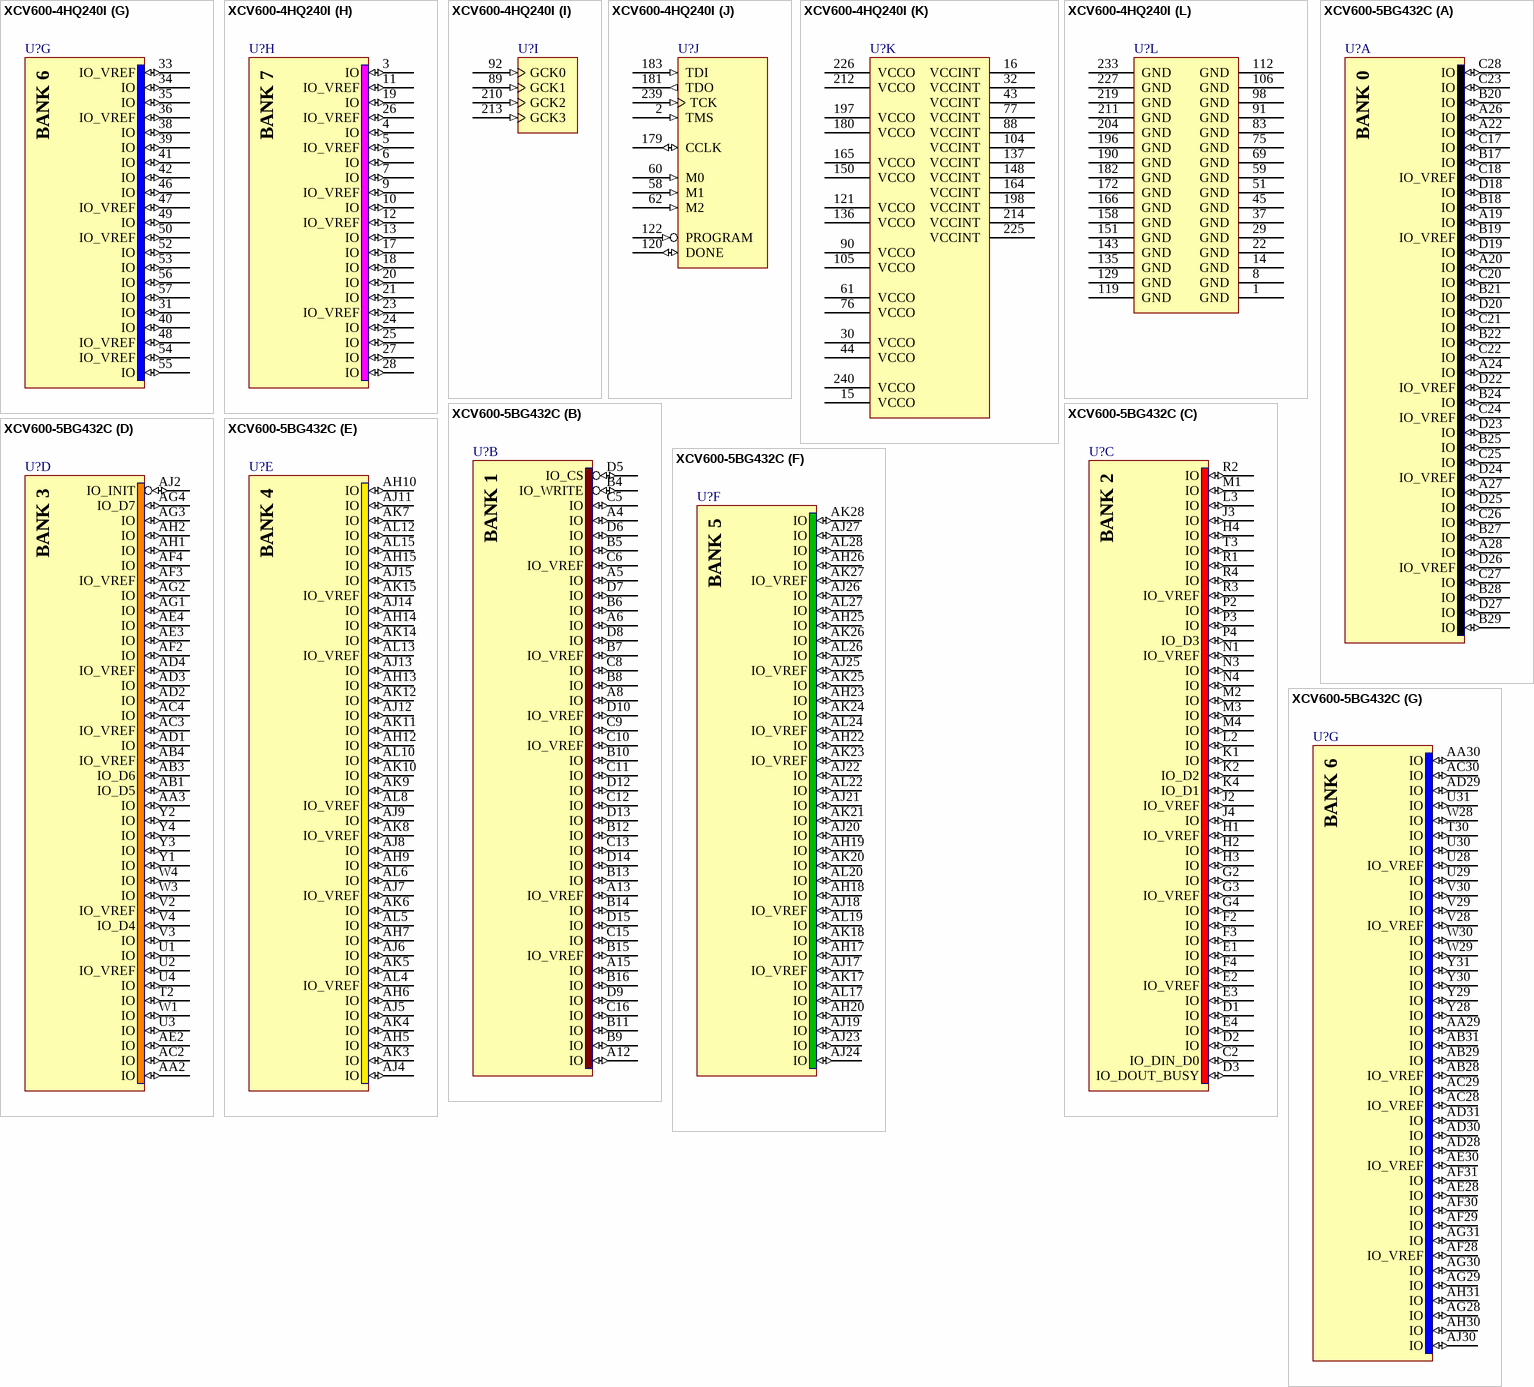
[diagram p135: symbols XCV600-4HQ240I to XCV600-5BG432C]

## XCV600-4HQ240I
designator U?
Virtex 2.5V FPGA, 166 User I/Os, 240-Pin HQFP, Speed Grade 4, Industrial Grade; Published: 19-Sep-2001; LatestRevisionDate: 13-Apr-2006; LatestRevisionNote: IPC-7351 Footprint Added.; DatasheetVersion: Dec-2002; PackageVersion: ver1.2, Jun-2004; PackageReference: HQ240; Publisher: Altium Limited; PackageDescription: 240-Pin Heat Sink Quad Flat Pack (HQ240); Supplier 1: Digi-Key; Supplier Part Number 1: XCV600-4HQ240I-ND; Code_JEDEC: MO-143-GA; ComponentLink1Description: Virtex Datasheet; ComponentLink1URL: http://www.xilinx.com/support/documentation/data_sheets/ds003.pdf; ComponentLink2Description: Discontinuation Notice; ComponentLink2URL: http://www.xilinx.com/support/documentation/customer_notices/xcn09001.pdf; ComponentLink3Description: HQ240 Package Drawing; ComponentLink3URL: http://www.xilinx.com/support/documentation/package_specs/hq240.pdf; ComponentLink4Description: Virtex Documents; ComponentLink4URL: http://www.xilinx.com/support/documentation/virtex.htm; ComponentLink5Description: Xilinx.com Home; ComponentLink5URL: http://www.xilinx.com
footprint HQ240_N (Shrink QFP, 240-Leads, Body 32x32mm, Pitch 0.5mm, IPC Medium Density)
footprint HQ240_L (Shrink QFP, 240-Leads, Body 32x32mm, Pitch 0.5mm, IPC High Density)
footprint HQ240_M (Shrink QFP, 240-Leads, Body 32x32mm, Pitch 0.5mm, IPC Low Density)
signal-integrity model XCV600_HQ240 (Virtex)
part A pins: 215 IO_VREF (io), 216 IO (io), 217 IO (io), 218 IO_VREF (io), 220 IO (io), 221 IO (io), 222 IO (io), 223 IO (io), 224 IO (io), 228 IO (io), 229 IO_VREF (io), 230 IO_VREF (io), 231 IO (io), 232 IO_VREF (io), 234 IO (io), 235 IO (io), 236 IO_VREF (io), 237 IO (io), 238 IO (io)
part B pins: 184 IO_CS (io), 185 IO_WRITE (io), 186 IO (io), 187 IO_VREF (io), 188 IO (io), 189 IO (io), 191 IO_VREF (io), 192 IO (io), 193 IO_VREF (io), 194 IO_VREF (io), 195 IO (io), 199 IO (io), 200 IO (io), 201 IO (io), 202 IO (io), 203 IO (io), 205 IO_VREF (io), 206 IO (io), 207 IO (io), 208 IO_VREF (io), 209 IO (io)
part C pins: 152 IO (io), 153 IO (io), 154 IO_VREF (io), 155 IO (io), 156 IO_D3 (io), 157 IO_VREF (io), 159 IO (io), 160 IO (io), 161 IO (io), 162 IO (io), 163 IO_D2 (io), 167 IO_D1 (io), 168 IO_VREF (io), 169 IO_VREF (io), 170 IO (io), 171 IO_VREF (io), 173 IO (io), 174 IO (io), 175 IO_VREF (io), 176 IO (io), 177 IO_DIN_D0 (io), 178 IO_DOUT_BUSY (io)
part D pins: 123 IO_INIT (io), 124 IO_D7 (io), 125 IO (io), 126 IO_VREF (io), 127 IO (io), 128 IO (io), 130 IO_VREF (io), 131 IO (io), 132 IO_VREF (io), 133 IO_VREF (io), 134 IO_D6 (io), 138 IO_D5 (io), 139 IO (io), 140 IO (io), 141 IO (io), 142 IO (io), 144 IO_VREF (io), 145 IO_D4 (io), 146 IO (io), 147 IO_VREF (io), 149 IO (io)
part E pins: 93 IO (io), 94 IO_VREF (io), 95 IO (io), 96 IO (io), 97 IO_VREF (io), 99 IO (io), 100 IO (io), 101 IO (io), 102 IO (io), 103 IO (io), 107 IO (io), 108 IO_VREF (io), 109 IO_VREF (io), 110 IO (io), 111 IO_VREF (io), 113 IO (io), 114 IO (io), 115 IO_VREF (io), 116 IO (io), 117 IO (io), 118 IO (io)
part F pins: 63 IO (io), 64 IO (io), 65 IO (io), 66 IO_VREF (io), 67 IO (io), 68 IO (io), 70 IO_VREF (io), 71 IO (io), 72 IO_VREF (io), 73 IO_VREF (io), 74 IO (io), 78 IO (io), 79 IO (io), 80 IO (io), 81 IO (io), 82 IO (io), 84 IO_VREF (io), 85 IO (io), 86 IO (io), 87 IO_VREF (io)
part G pins: 31 IO (io), 33 IO_VREF (io), 34 IO (io), 35 IO (io), 36 IO_VREF (io), 38 IO (io), 39 IO (io), 40 IO (io), 41 IO (io), 42 IO (io), 46 IO (io), 47 IO_VREF (io), 48 IO_VREF (io), 49 IO (io), 50 IO_VREF (io), 52 IO (io), 53 IO (io), 54 IO_VREF (io), 55 IO (io), 56 IO (io), 57 IO (io)
part H pins: 3 IO (io), 4 IO (io), 5 IO_VREF (io), 6 IO (io), 7 IO (io), 9 IO_VREF (io), 10 IO (io), 11 IO_VREF (io), 12 IO_VREF (io), 13 IO (io), 17 IO (io), 18 IO (io), 19 IO (io), 20 IO (io), 21 IO (io), 23 IO_VREF (io), 24 IO (io), 25 IO (io), 26 IO_VREF (io), 27 IO (io), 28 IO (io)
part I pins: 89 GCK1 (in), 92 GCK0 (in), 210 GCK2 (in), 213 GCK3 (in)
part J pins: 2 TMS (in), 58 M1 (in), 60 M0 (in), 62 M2 (in), 120 DONE (io), 122 PROGRAM (in), 179 CCLK (io), 181 TDO (out), 183 TDI (in), 239 TCK (in)
part K pins: 15 VCCO (power), 16 VCCINT (power), 30 VCCO (power), 32 VCCINT (power), 43 VCCINT (power), 44 VCCO (power), 61 VCCO (power), 76 VCCO (power), 77 VCCINT (power), 88 VCCINT (power), 90 VCCO (power), 104 VCCINT (power), 105 VCCO (power), 121 VCCO (power), 136 VCCO (power), 137 VCCINT (power), 148 VCCINT (power), 150 VCCO (power), 164 VCCINT (power), 165 VCCO (power), 180 VCCO (power), 197 VCCO (power), 198 VCCINT (power), 212 VCCO (power), 214 VCCINT (power), 225 VCCINT (power), 226 VCCO (power), 240 VCCO (power)
part L pins: 1 GND (power), 8 GND (power), 14 GND (power), 22 GND (power), 29 GND (power), 37 GND (power), 45 GND (power), 51 GND (power), 59 GND (power), 69 GND (power), 75 GND (power), 83 GND (power), 91 GND (power), 98 GND (power), 106 GND (power), 112 GND (power), 119 GND (power), 129 GND (power), 135 GND (power), 143 GND (power), 151 GND (power), 158 GND (power), 166 GND (power), 172 GND (power), 182 GND (power), 190 GND (power), 196 GND (power), 204 GND (power), 211 GND (power), 219 GND (power), 227 GND (power), 233 GND (power)
part A text: BANK 0
part B text: BANK 1
part C text: BANK 2
part D text: BANK 3
part E text: BANK 4
part F text: BANK 5
part G text: BANK 6
part H text: BANK 7

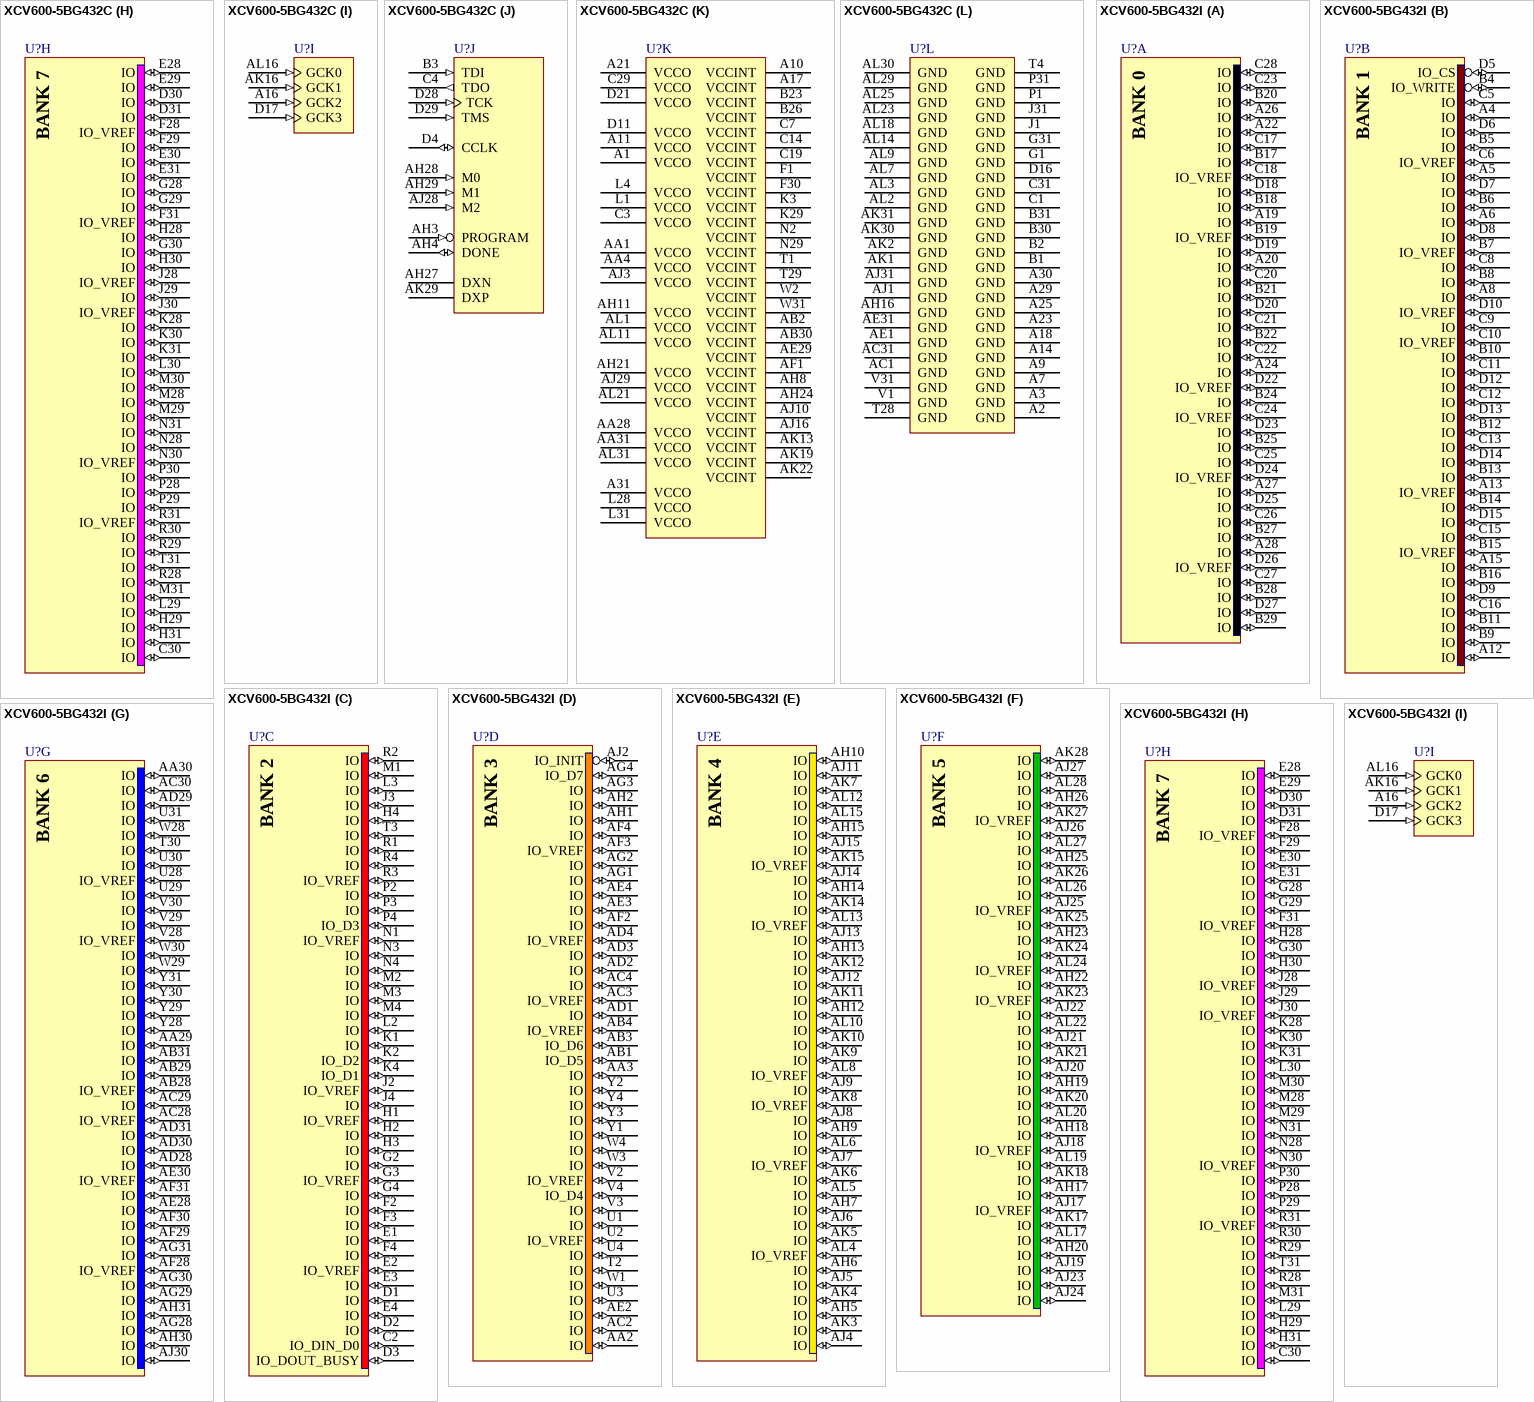
[diagram p136: symbols XCV600-5BG432C to XCV600-5BG432I]

## XCV600-5BG432C
designator U?
Virtex 2.5V FPGA, 316 User I/Os, 432-Ball BGA, Speed Grade 5, Commercial Grade; Note: Solder pads are defined by the copper i.e. non-soldermask defined (NSMD); Published: 19-Sep-2001; LatestRevisionDate: 13-Apr-2006; LatestRevisionNote: IPC-7351 Footprint Added.; DatasheetVersion: Dec-2002; PackageVersion: ver1.1, Apr-2001; PackageReference: BG432; Publisher: Altium Limited; PackageDescription: 432-Ball Metal Ball Grid Array (BG432); Supplier 1: Digi-Key; Supplier Part Number 1: XCV600-5BG432C-ND; Code_JEDEC: MO-192-BAU-1 (Depopulated); ComponentLink1Description: Virtex Datasheet; ComponentLink1URL: http://www.xilinx.com/support/documentation/data_sheets/ds003.pdf; ComponentLink2Description: BG432 Package Drawing; ComponentLink2URL: http://www.xilinx.com/support/documentation/package_specs/bg432.pdf; ComponentLink3Description: Virtex Documents; ComponentLink3URL: http://www.xilinx.com/support/documentation/virtex.htm; ComponentLink4Description: Xilinx.com Home; ComponentLink4URL: http://www.xilinx.com
footprint BG432 (BGA, 432-Leads, Body 40x40mm, Pitch 1.27mm)
signal-integrity model XCV600_BG432 (Virtex)
part A pins: A19 IO (io), A20 IO (io), A22 IO (io), A24 IO (io), A26 IO (io), A27 IO (io), A28 IO (io), B17 IO (io), B18 IO (io), B19 IO_VREF (io), B20 IO (io), B21 IO (io), B22 IO (io), B24 IO (io), B25 IO (io), B27 IO (io), B28 IO (io), B29 IO (io), C17 IO (io), C18 IO_VREF (io), C20 IO (io), C21 IO (io), C22 IO (io), C23 IO (io), C24 IO_VREF (io), C25 IO (io), C26 IO (io), C27 IO (io), C28 IO (io), D18 IO (io), D19 IO (io), D20 IO (io), D22 IO_VREF (io), D23 IO (io), D24 IO_VREF (io), D25 IO (io), D26 IO_VREF (io), D27 IO (io)
part B pins: A4 IO (io), A5 IO (io), A6 IO (io), A8 IO (io), A12 IO (io), A13 IO_VREF (io), A15 IO (io), B4 IO_WRITE (io), B5 IO (io), B6 IO (io), B7 IO_VREF (io), B8 IO (io), B9 IO (io), B10 IO (io), B11 IO (io), B12 IO (io), B13 IO (io), B14 IO (io), B15 IO_VREF (io), B16 IO (io), C5 IO (io), C6 IO_VREF (io), C8 IO (io), C9 IO (io), C10 IO_VREF (io), C11 IO (io), C12 IO (io), C13 IO (io), C15 IO (io), C16 IO (io), D5 IO_CS (io), D6 IO (io), D7 IO (io), D8 IO (io), D9 IO (io), D10 IO_VREF (io), D12 IO (io), D13 IO (io), D14 IO (io), D15 IO (io)
part C pins: C2 IO_DIN_D0 (io), D1 IO (io), D2 IO (io), D3 IO_DOUT_BUSY (io), E1 IO (io), E2 IO_VREF (io), E3 IO (io), E4 IO (io), F2 IO (io), F3 IO (io), F4 IO (io), G2 IO (io), G3 IO_VREF (io), G4 IO (io), H1 IO_VREF (io), H2 IO (io), H3 IO (io), H4 IO (io), J2 IO_VREF (io), J3 IO (io), J4 IO (io), K1 IO (io), K2 IO_D2 (io), K4 IO_D1 (io), L2 IO (io), L3 IO (io), M1 IO (io), M2 IO (io), M3 IO (io), M4 IO (io), N1 IO_VREF (io), N3 IO (io), N4 IO (io), P2 IO (io), P3 IO (io), P4 IO_D3 (io), R1 IO (io), R2 IO (io), R3 IO_VREF (io), R4 IO (io), T3 IO (io)
part D pins: AA2 IO (io), AA3 IO (io), AB1 IO_D5 (io), AB3 IO_D6 (io), AB4 IO_VREF (io), AC2 IO (io), AC3 IO_VREF (io), AC4 IO (io), AD1 IO (io), AD2 IO (io), AD3 IO (io), AD4 IO_VREF (io), AE2 IO (io), AE3 IO (io), AE4 IO (io), AF2 IO (io), AF3 IO_VREF (io), AF4 IO (io), AG1 IO (io), AG2 IO (io), AG3 IO (io), AG4 IO_D7 (io), AH1 IO (io), AH2 IO (io), AJ2 IO_INIT (io), T2 IO (io), U1 IO (io), U2 IO_VREF (io), U3 IO (io), U4 IO (io), V2 IO_VREF (io), V3 IO (io), V4 IO_D4 (io), W1 IO (io), W3 IO (io), W4 IO (io), Y1 IO (io), Y2 IO (io), Y3 IO (io), Y4 IO (io)
part E pins: AH5 IO (io), AH6 IO (io), AH7 IO (io), AH9 IO (io), AH10 IO (io), AH12 IO (io), AH13 IO (io), AH14 IO (io), AH15 IO (io), AJ4 IO (io), AJ5 IO (io), AJ6 IO (io), AJ7 IO_VREF (io), AJ8 IO (io), AJ9 IO (io), AJ11 IO (io), AJ12 IO (io), AJ13 IO (io), AJ14 IO (io), AJ15 IO (io), AK3 IO (io), AK4 IO (io), AK5 IO (io), AK6 IO (io), AK7 IO (io), AK8 IO_VREF (io), AK9 IO (io), AK10 IO (io), AK11 IO (io), AK12 IO (io), AK14 IO (io), AK15 IO_VREF (io), AL4 IO_VREF (io), AL5 IO (io), AL6 IO (io), AL8 IO_VREF (io), AL10 IO (io), AL12 IO (io), AL13 IO_VREF (io), AL15 IO (io)
part F pins: AH17 IO (io), AH18 IO (io), AH19 IO (io), AH20 IO (io), AH22 IO (io), AH23 IO (io), AH25 IO (io), AH26 IO (io), AJ17 IO_VREF (io), AJ18 IO_VREF (io), AJ19 IO (io), AJ20 IO (io), AJ21 IO (io), AJ22 IO (io), AJ23 IO (io), AJ24 IO (io), AJ25 IO_VREF (io), AJ26 IO (io), AJ27 IO (io), AK17 IO (io), AK18 IO (io), AK20 IO (io), AK21 IO (io), AK23 IO_VREF (io), AK24 IO (io), AK25 IO (io), AK26 IO (io), AK27 IO_VREF (io), AK28 IO (io), AL17 IO (io), AL19 IO (io), AL20 IO (io), AL22 IO (io), AL24 IO_VREF (io), AL26 IO (io), AL27 IO (io), AL28 IO (io)
part G pins: AA29 IO (io), AA30 IO (io), AB28 IO_VREF (io), AB29 IO (io), AB31 IO (io), AC28 IO_VREF (io), AC29 IO (io), AC30 IO (io), AD28 IO (io), AD29 IO (io), AD30 IO (io), AD31 IO (io), AE28 IO (io), AE30 IO_VREF (io), AF28 IO_VREF (io), AF29 IO (io), AF30 IO (io), AF31 IO (io), AG28 IO (io), AG29 IO (io), AG30 IO (io), AG31 IO (io), AH30 IO (io), AH31 IO (io), AJ30 IO (io), T30 IO (io), U28 IO_VREF (io), U29 IO (io), U30 IO (io), U31 IO (io), V28 IO_VREF (io), V29 IO (io), V30 IO (io), W28 IO (io), W29 IO (io), W30 IO (io), Y28 IO (io), Y29 IO (io), Y30 IO (io), Y31 IO (io)
part H pins: C30 IO (io), D30 IO (io), D31 IO (io), E28 IO (io), E29 IO (io), E30 IO (io), E31 IO (io), F28 IO_VREF (io), F29 IO (io), F31 IO_VREF (io), G28 IO (io), G29 IO (io), G30 IO (io), H28 IO (io), H29 IO (io), H30 IO (io), H31 IO (io), J28 IO_VREF (io), J29 IO (io), J30 IO_VREF (io), K28 IO (io), K30 IO (io), K31 IO (io), L29 IO (io), L30 IO (io), M28 IO (io), M29 IO (io), M30 IO (io), M31 IO (io), N28 IO (io), N30 IO_VREF (io), N31 IO (io), P28 IO (io), P29 IO (io), P30 IO (io), R28 IO (io), R29 IO (io), R30 IO (io), R31 IO_VREF (io), T31 IO (io)
part I pins: A16 GCK2 (in), AK16 GCK1 (in), AL16 GCK0 (in), D17 GCK3 (in)
part J pins: AH3 PROGRAM (in), AH4 DONE (io), AH27 DXN, AH28 M0 (in), AH29 M1 (in), AJ28 M2 (in), AK29 DXP, B3 TDI (in), C4 TDO (out), D4 CCLK (io), D28 TCK (in), D29 TMS (in)
part K pins: A1 VCCO (power), A10 VCCINT (power), A11 VCCO (power), A17 VCCINT (power), A21 VCCO (power), A31 VCCO (power), AA1 VCCO (power), AA4 VCCO (power), AA28 VCCO (power), AA31 VCCO (power), AB2 VCCINT (power), AB30 VCCINT (power), AE29 VCCINT (power), AF1 VCCINT (power), AH8 VCCINT (power), AH11 VCCO (power), AH21 VCCO (power), AH24 VCCINT (power), AJ3 VCCO (power), AJ10 VCCINT (power), AJ16 VCCINT (power), AJ29 VCCO (power), AK13 VCCINT (power), AK19 VCCINT (power), AK22 VCCINT (power), AL1 VCCO (power), AL11 VCCO (power), AL21 VCCO (power), AL31 VCCO (power), B23 VCCINT (power), B26 VCCINT (power), C3 VCCO (power), C7 VCCINT (power), C14 VCCINT (power), C19 VCCINT (power), C29 VCCO (power), D11 VCCO (power), D21 VCCO (power), F1 VCCINT (power), F30 VCCINT (power), K3 VCCINT (power), K29 VCCINT (power), L1 VCCO (power), L4 VCCO (power), L28 VCCO (power), L31 VCCO (power), N2 VCCINT (power), N29 VCCINT (power), T1 VCCINT (power), T29 VCCINT (power), W2 VCCINT (power), W31 VCCINT (power)
part L pins: A2 GND (power), A3 GND (power), A7 GND (power), A9 GND (power), A14 GND (power), A18 GND (power), A23 GND (power), A25 GND (power), A29 GND (power), A30 GND (power), AC1 GND (power), AC31 GND (power), AE1 GND (power), AE31 GND (power), AH16 GND (power), AJ1 GND (power), AJ31 GND (power), AK1 GND (power), AK2 GND (power), AK30 GND (power), AK31 GND (power), AL2 GND (power), AL3 GND (power), AL7 GND (power), AL9 GND (power), AL14 GND (power), AL18 GND (power), AL23 GND (power), AL25 GND (power), AL29 GND (power), AL30 GND (power), B1 GND (power), B2 GND (power), B30 GND (power), B31 GND (power), C1 GND (power), C31 GND (power), D16 GND (power), G1 GND (power), G31 GND (power), J1 GND (power), J31 GND (power), P1 GND (power), P31 GND (power), T4 GND (power), T28 GND (power), V1 GND (power), V31 GND (power)
part A text: BANK 0
part B text: BANK 1
part C text: BANK 2
part D text: BANK 3
part E text: BANK 4
part F text: BANK 5
part G text: BANK 6
part H text: BANK 7

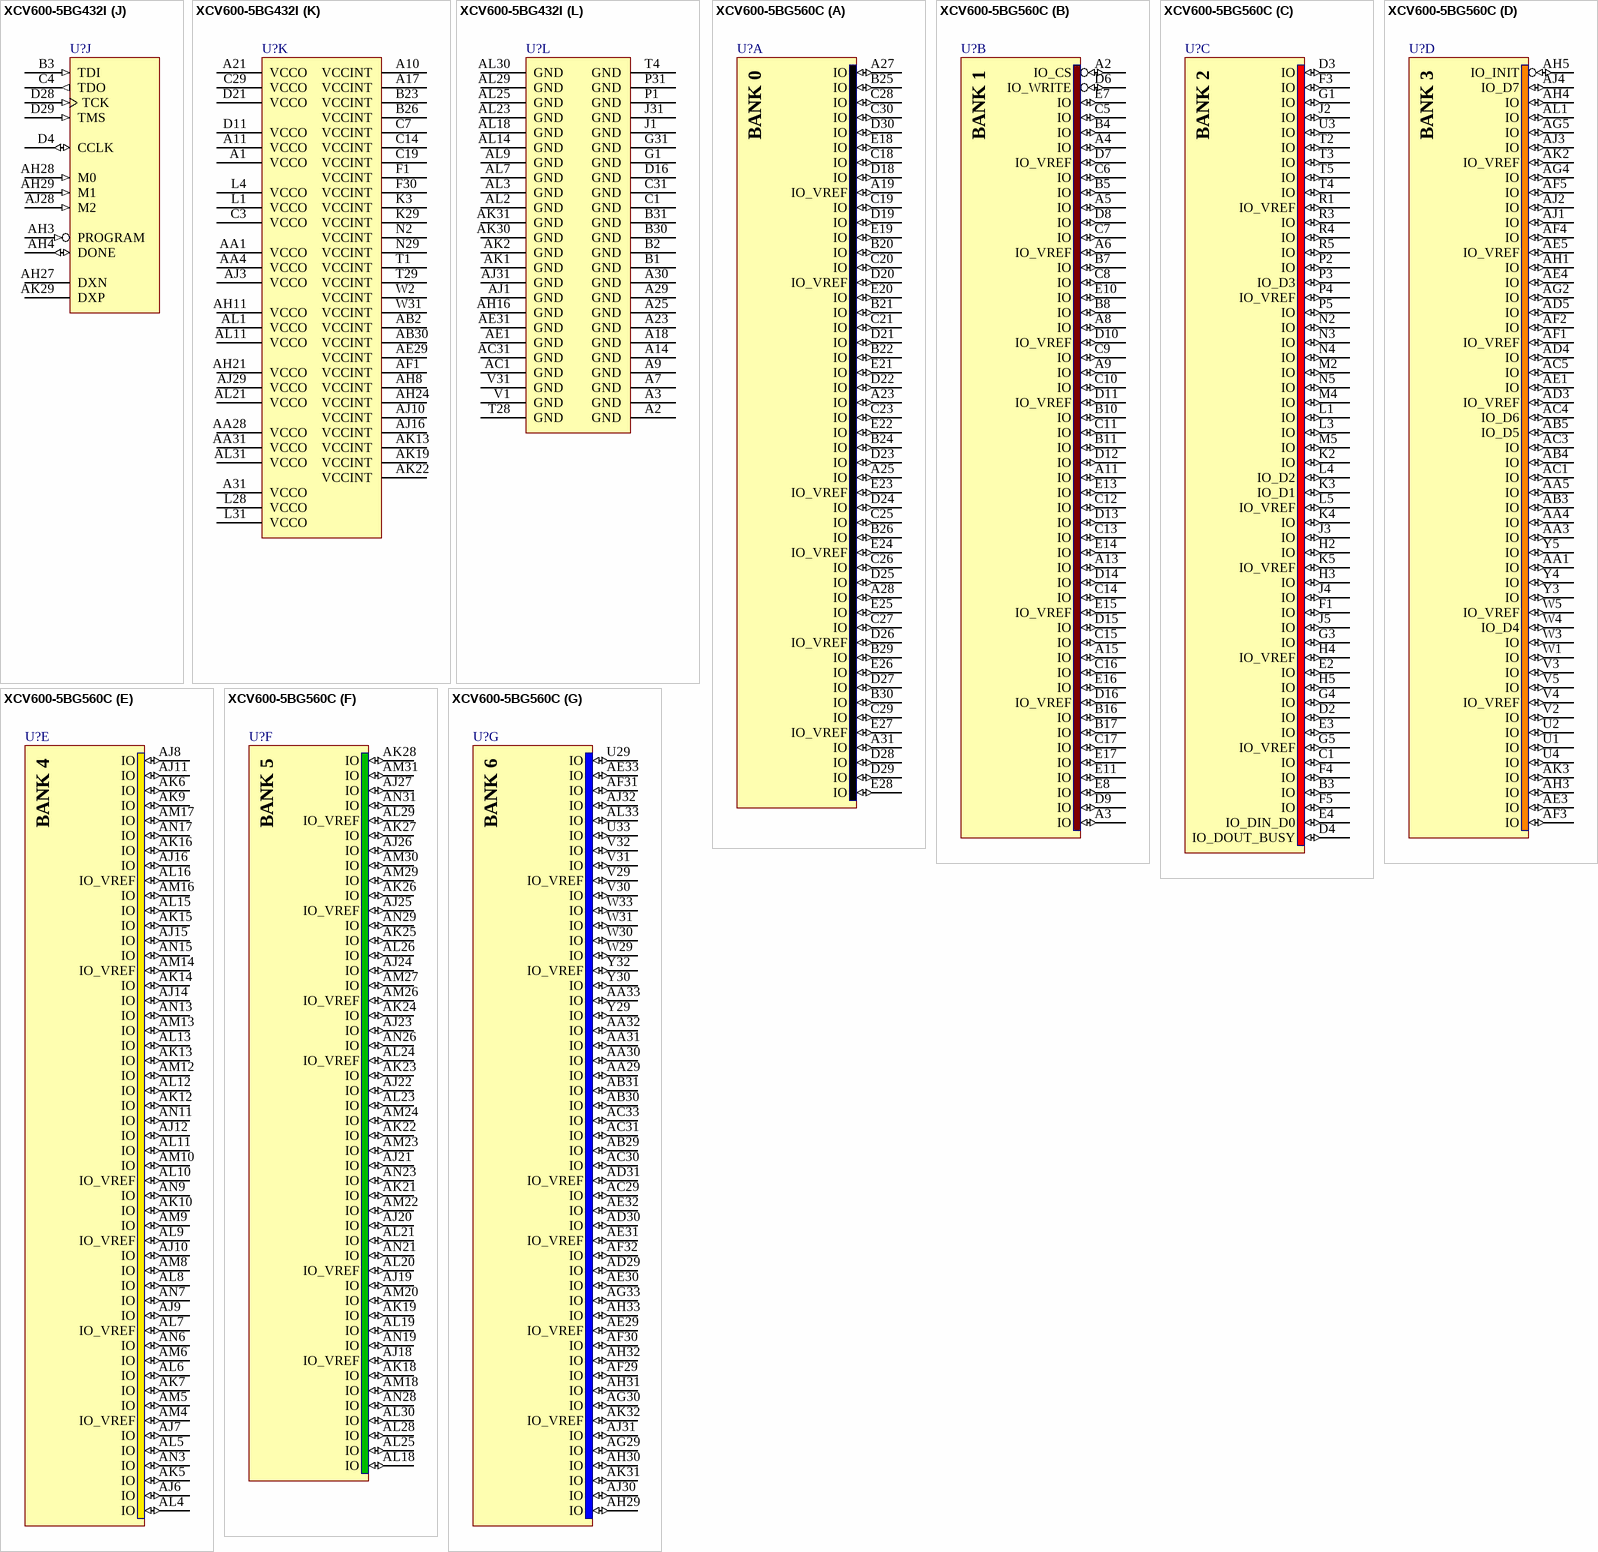
[diagram p137: symbols XCV600-5BG432I to XCV600-5BG560C]

## XCV600-5BG432I
designator U?
Virtex 2.5V FPGA, 316 User I/Os, 432-Ball BGA, Speed Grade 5, Industrial Grade; Note: Solder pads are defined by the copper i.e. non-soldermask defined (NSMD); Published: 19-Sep-2001; LatestRevisionDate: 13-Apr-2006; LatestRevisionNote: IPC-7351 Footprint Added.; DatasheetVersion: Dec-2002; PackageVersion: ver1.1, Apr-2001; PackageReference: BG432; Publisher: Altium Limited; PackageDescription: 432-Ball Metal Ball Grid Array (BG432); Supplier 1: Digi-Key; Supplier Part Number 1: XCV600-5BG432I-ND; Code_JEDEC: MO-192-BAU-1 (Depopulated); ComponentLink1Description: Virtex Datasheet; ComponentLink1URL: http://www.xilinx.com/support/documentation/data_sheets/ds003.pdf; ComponentLink2Description: BG432 Package Drawing; ComponentLink2URL: http://www.xilinx.com/support/documentation/package_specs/bg432.pdf; ComponentLink3Description: Virtex Documents; ComponentLink3URL: http://www.xilinx.com/support/documentation/virtex.htm; ComponentLink4Description: Xilinx.com Home; ComponentLink4URL: http://www.xilinx.com
footprint BG432 (BGA, 432-Leads, Body 40x40mm, Pitch 1.27mm)
signal-integrity model XCV600_BG432 (Virtex)
part A pins: A19 IO (io), A20 IO (io), A22 IO (io), A24 IO (io), A26 IO (io), A27 IO (io), A28 IO (io), B17 IO (io), B18 IO (io), B19 IO_VREF (io), B20 IO (io), B21 IO (io), B22 IO (io), B24 IO (io), B25 IO (io), B27 IO (io), B28 IO (io), B29 IO (io), C17 IO (io), C18 IO_VREF (io), C20 IO (io), C21 IO (io), C22 IO (io), C23 IO (io), C24 IO_VREF (io), C25 IO (io), C26 IO (io), C27 IO (io), C28 IO (io), D18 IO (io), D19 IO (io), D20 IO (io), D22 IO_VREF (io), D23 IO (io), D24 IO_VREF (io), D25 IO (io), D26 IO_VREF (io), D27 IO (io)
part B pins: A4 IO (io), A5 IO (io), A6 IO (io), A8 IO (io), A12 IO (io), A13 IO_VREF (io), A15 IO (io), B4 IO_WRITE (io), B5 IO (io), B6 IO (io), B7 IO_VREF (io), B8 IO (io), B9 IO (io), B10 IO (io), B11 IO (io), B12 IO (io), B13 IO (io), B14 IO (io), B15 IO_VREF (io), B16 IO (io), C5 IO (io), C6 IO_VREF (io), C8 IO (io), C9 IO (io), C10 IO_VREF (io), C11 IO (io), C12 IO (io), C13 IO (io), C15 IO (io), C16 IO (io), D5 IO_CS (io), D6 IO (io), D7 IO (io), D8 IO (io), D9 IO (io), D10 IO_VREF (io), D12 IO (io), D13 IO (io), D14 IO (io), D15 IO (io)
part C pins: C2 IO_DIN_D0 (io), D1 IO (io), D2 IO (io), D3 IO_DOUT_BUSY (io), E1 IO (io), E2 IO_VREF (io), E3 IO (io), E4 IO (io), F2 IO (io), F3 IO (io), F4 IO (io), G2 IO (io), G3 IO_VREF (io), G4 IO (io), H1 IO_VREF (io), H2 IO (io), H3 IO (io), H4 IO (io), J2 IO_VREF (io), J3 IO (io), J4 IO (io), K1 IO (io), K2 IO_D2 (io), K4 IO_D1 (io), L2 IO (io), L3 IO (io), M1 IO (io), M2 IO (io), M3 IO (io), M4 IO (io), N1 IO_VREF (io), N3 IO (io), N4 IO (io), P2 IO (io), P3 IO (io), P4 IO_D3 (io), R1 IO (io), R2 IO (io), R3 IO_VREF (io), R4 IO (io), T3 IO (io)
part D pins: AA2 IO (io), AA3 IO (io), AB1 IO_D5 (io), AB3 IO_D6 (io), AB4 IO_VREF (io), AC2 IO (io), AC3 IO_VREF (io), AC4 IO (io), AD1 IO (io), AD2 IO (io), AD3 IO (io), AD4 IO_VREF (io), AE2 IO (io), AE3 IO (io), AE4 IO (io), AF2 IO (io), AF3 IO_VREF (io), AF4 IO (io), AG1 IO (io), AG2 IO (io), AG3 IO (io), AG4 IO_D7 (io), AH1 IO (io), AH2 IO (io), AJ2 IO_INIT (io), T2 IO (io), U1 IO (io), U2 IO_VREF (io), U3 IO (io), U4 IO (io), V2 IO_VREF (io), V3 IO (io), V4 IO_D4 (io), W1 IO (io), W3 IO (io), W4 IO (io), Y1 IO (io), Y2 IO (io), Y3 IO (io), Y4 IO (io)
part E pins: AH5 IO (io), AH6 IO (io), AH7 IO (io), AH9 IO (io), AH10 IO (io), AH12 IO (io), AH13 IO (io), AH14 IO (io), AH15 IO (io), AJ4 IO (io), AJ5 IO (io), AJ6 IO (io), AJ7 IO_VREF (io), AJ8 IO (io), AJ9 IO (io), AJ11 IO (io), AJ12 IO (io), AJ13 IO (io), AJ14 IO (io), AJ15 IO (io), AK3 IO (io), AK4 IO (io), AK5 IO (io), AK6 IO (io), AK7 IO (io), AK8 IO_VREF (io), AK9 IO (io), AK10 IO (io), AK11 IO (io), AK12 IO (io), AK14 IO (io), AK15 IO_VREF (io), AL4 IO_VREF (io), AL5 IO (io), AL6 IO (io), AL8 IO_VREF (io), AL10 IO (io), AL12 IO (io), AL13 IO_VREF (io), AL15 IO (io)
part F pins: AH17 IO (io), AH18 IO (io), AH19 IO (io), AH20 IO (io), AH22 IO (io), AH23 IO (io), AH25 IO (io), AH26 IO (io), AJ17 IO_VREF (io), AJ18 IO_VREF (io), AJ19 IO (io), AJ20 IO (io), AJ21 IO (io), AJ22 IO (io), AJ23 IO (io), AJ24 IO (io), AJ25 IO_VREF (io), AJ26 IO (io), AJ27 IO (io), AK17 IO (io), AK18 IO (io), AK20 IO (io), AK21 IO (io), AK23 IO_VREF (io), AK24 IO (io), AK25 IO (io), AK26 IO (io), AK27 IO_VREF (io), AK28 IO (io), AL17 IO (io), AL19 IO (io), AL20 IO (io), AL22 IO (io), AL24 IO_VREF (io), AL26 IO (io), AL27 IO (io), AL28 IO (io)
part G pins: AA29 IO (io), AA30 IO (io), AB28 IO_VREF (io), AB29 IO (io), AB31 IO (io), AC28 IO_VREF (io), AC29 IO (io), AC30 IO (io), AD28 IO (io), AD29 IO (io), AD30 IO (io), AD31 IO (io), AE28 IO (io), AE30 IO_VREF (io), AF28 IO_VREF (io), AF29 IO (io), AF30 IO (io), AF31 IO (io), AG28 IO (io), AG29 IO (io), AG30 IO (io), AG31 IO (io), AH30 IO (io), AH31 IO (io), AJ30 IO (io), T30 IO (io), U28 IO_VREF (io), U29 IO (io), U30 IO (io), U31 IO (io), V28 IO_VREF (io), V29 IO (io), V30 IO (io), W28 IO (io), W29 IO (io), W30 IO (io), Y28 IO (io), Y29 IO (io), Y30 IO (io), Y31 IO (io)
part H pins: C30 IO (io), D30 IO (io), D31 IO (io), E28 IO (io), E29 IO (io), E30 IO (io), E31 IO (io), F28 IO_VREF (io), F29 IO (io), F31 IO_VREF (io), G28 IO (io), G29 IO (io), G30 IO (io), H28 IO (io), H29 IO (io), H30 IO (io), H31 IO (io), J28 IO_VREF (io), J29 IO (io), J30 IO_VREF (io), K28 IO (io), K30 IO (io), K31 IO (io), L29 IO (io), L30 IO (io), M28 IO (io), M29 IO (io), M30 IO (io), M31 IO (io), N28 IO (io), N30 IO_VREF (io), N31 IO (io), P28 IO (io), P29 IO (io), P30 IO (io), R28 IO (io), R29 IO (io), R30 IO (io), R31 IO_VREF (io), T31 IO (io)
part I pins: A16 GCK2 (in), AK16 GCK1 (in), AL16 GCK0 (in), D17 GCK3 (in)
part J pins: AH3 PROGRAM (in), AH4 DONE (io), AH27 DXN, AH28 M0 (in), AH29 M1 (in), AJ28 M2 (in), AK29 DXP, B3 TDI (in), C4 TDO (out), D4 CCLK (io), D28 TCK (in), D29 TMS (in)
part K pins: A1 VCCO (power), A10 VCCINT (power), A11 VCCO (power), A17 VCCINT (power), A21 VCCO (power), A31 VCCO (power), AA1 VCCO (power), AA4 VCCO (power), AA28 VCCO (power), AA31 VCCO (power), AB2 VCCINT (power), AB30 VCCINT (power), AE29 VCCINT (power), AF1 VCCINT (power), AH8 VCCINT (power), AH11 VCCO (power), AH21 VCCO (power), AH24 VCCINT (power), AJ3 VCCO (power), AJ10 VCCINT (power), AJ16 VCCINT (power), AJ29 VCCO (power), AK13 VCCINT (power), AK19 VCCINT (power), AK22 VCCINT (power), AL1 VCCO (power), AL11 VCCO (power), AL21 VCCO (power), AL31 VCCO (power), B23 VCCINT (power), B26 VCCINT (power), C3 VCCO (power), C7 VCCINT (power), C14 VCCINT (power), C19 VCCINT (power), C29 VCCO (power), D11 VCCO (power), D21 VCCO (power), F1 VCCINT (power), F30 VCCINT (power), K3 VCCINT (power), K29 VCCINT (power), L1 VCCO (power), L4 VCCO (power), L28 VCCO (power), L31 VCCO (power), N2 VCCINT (power), N29 VCCINT (power), T1 VCCINT (power), T29 VCCINT (power), W2 VCCINT (power), W31 VCCINT (power)
part L pins: A2 GND (power), A3 GND (power), A7 GND (power), A9 GND (power), A14 GND (power), A18 GND (power), A23 GND (power), A25 GND (power), A29 GND (power), A30 GND (power), AC1 GND (power), AC31 GND (power), AE1 GND (power), AE31 GND (power), AH16 GND (power), AJ1 GND (power), AJ31 GND (power), AK1 GND (power), AK2 GND (power), AK30 GND (power), AK31 GND (power), AL2 GND (power), AL3 GND (power), AL7 GND (power), AL9 GND (power), AL14 GND (power), AL18 GND (power), AL23 GND (power), AL25 GND (power), AL29 GND (power), AL30 GND (power), B1 GND (power), B2 GND (power), B30 GND (power), B31 GND (power), C1 GND (power), C31 GND (power), D16 GND (power), G1 GND (power), G31 GND (power), J1 GND (power), J31 GND (power), P1 GND (power), P31 GND (power), T4 GND (power), T28 GND (power), V1 GND (power), V31 GND (power)
part A text: BANK 0
part B text: BANK 1
part C text: BANK 2
part D text: BANK 3
part E text: BANK 4
part F text: BANK 5
part G text: BANK 6
part H text: BANK 7

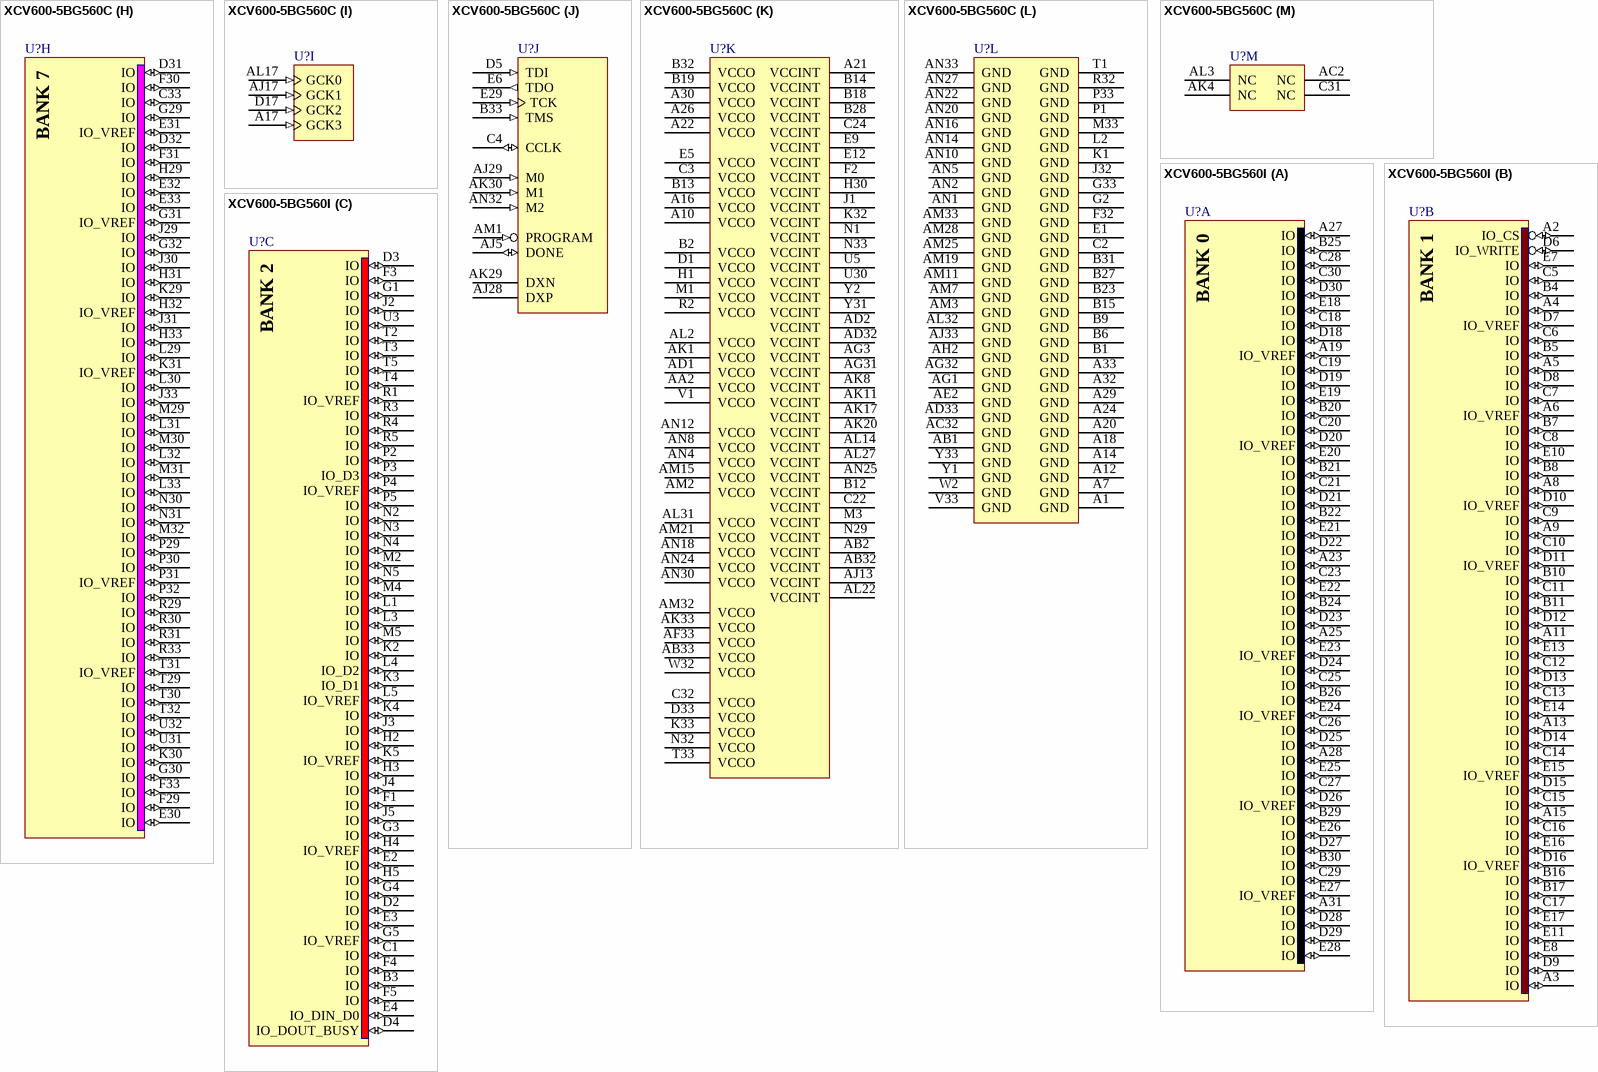
[diagram p138: symbols XCV600-5BG560C to XCV600-5BG560I]